# Altium integrated library CONN.IntLib: 87 symbols (part 1 of 2)
Pins are listed as number, name and electrical type; pins without a type are passive.

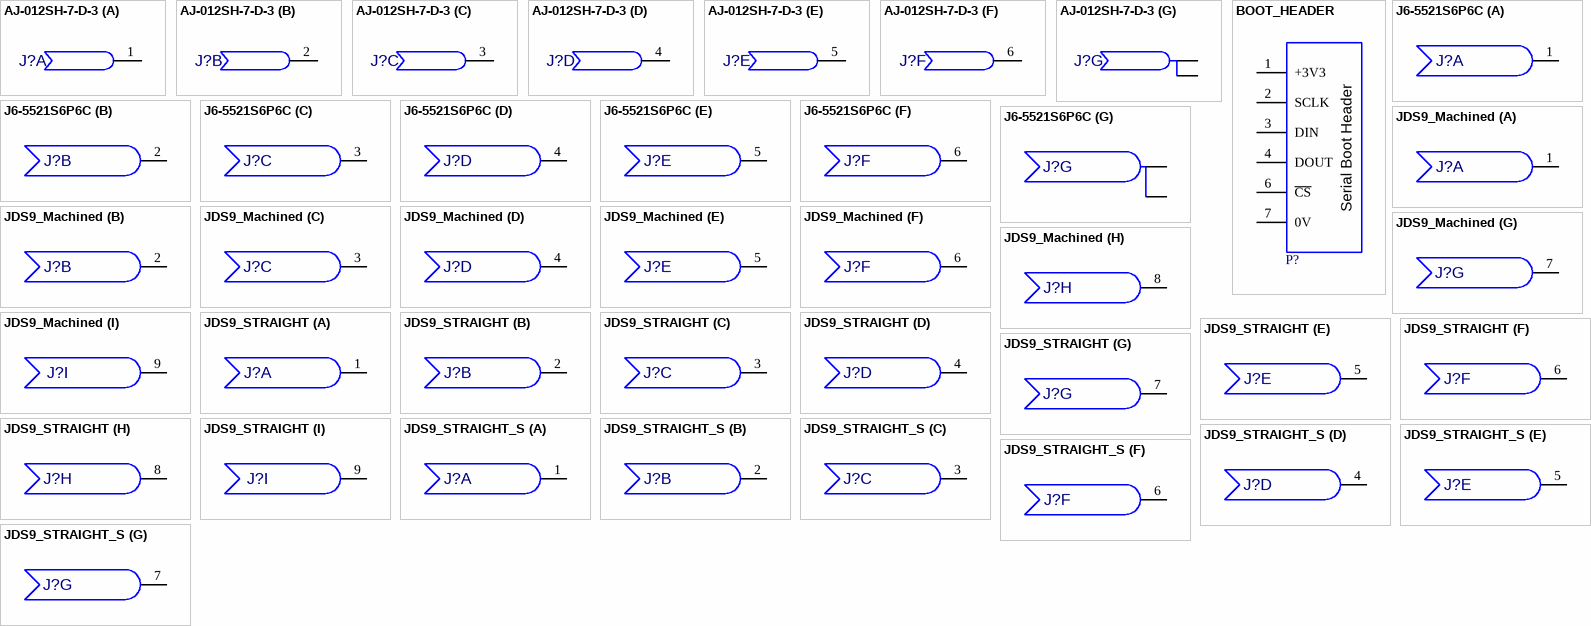
[diagram p0: symbols AJ-012SH-7-D-3 to JDS9_STRAIGHT_S]

## AJ-012SH-7-D-3
designator J?, comment 70615-291  (value not drawn)
CONNECTOR 6 WAY RJ12 VERTICAL; ECAD_Revision: 1; Librarian: UK; PartNumber: 70615-291; Item: *; HelpURL: *
footprint AJ-012SH-7-D-3 (Rev.1)
part A pins: 1 PIN
part B pins: 2 PIN
part C pins: 3 PIN
part D pins: 4 PIN
part E pins: 5 PIN
part F pins: 6 PIN
part G pins: 7 PIN, 8 PIN

## BOOT_HEADER
designator P?  (value not drawn)  (no BOM)
N9360 serial boot header - No BOM entry; ECAD_Revision: 1; Librarian: UK; Value: *; HelpURL: *; PartNumber: *; Item: *
footprint PH2M54-6S (Boot header, special 7 pos. 6 pins fitted. Rev. 1)
pins: 1 +3V3 "Positive Supply", 2 SCLK "Reset", 3 DIN "External Interupt", 4 DOUT "Transmit Data", 6 ~{CS} "Receive Data", 7 0V "Supply Ground"
text: Serial Boot Header

## J6-5521S6P6C
designator J?, comment AWT25-000165  (value not drawn)
CONNECTOR 6 WAY RJ12 RIGHT ANGLE; ECAD_Revision: 2; Librarian: UK; PartNumber: AWT25-000165; Item: *; HelpURL: *
footprint J6_5521S6P6C (CRS 5521S6P6C Rev.1)
part A pins: 1 PIN
part B pins: 2 PIN
part C pins: 3 PIN
part D pins: 4 PIN
part E pins: 5 PIN
part F pins: 6 PIN
part G pins: 9 PIN, 10 PIN

## JDS9_Machined
designator J?, comment AWT25-500102  (value not drawn)
Connector, D Series 9 Pin Female Machined; Value: {Value}; ECAD_Revision: 1; Librarian: US; PartNumber: AWT25-500102; Item: *; HelpURL: K:\ACCELEDA\PDF Spec Files\Connector\172-E09-213.pdf
footprint DJ9_STRAIGHT
part A pins: 1 PIN
part B pins: 2 PIN
part C pins: 3 PIN
part D pins: 4 PIN
part E pins: 5 PIN
part F pins: 6 PIN
part G pins: 7 PIN
part H pins: 8 PIN
part I pins: 9 PIN

## JDS9_STRAIGHT
designator J?, comment TMP_US_JDS9  (value not drawn)
Connector, D Series 9 Pin Female; Value: {Value}; ECAD_Revision: 1; Librarian: US; PartNumber: TMP_US_JDS9; Item: *; HelpURL: K:\ACCELEDA\PDF Spec Files\Connector\5747150.pdf
footprint DJ9_STRAIGHT
part A pins: 1 PIN
part B pins: 2 PIN
part C pins: 3 PIN
part D pins: 4 PIN
part E pins: 5 PIN
part F pins: 6 PIN
part G pins: 7 PIN
part H pins: 8 PIN
part I pins: 9 PIN

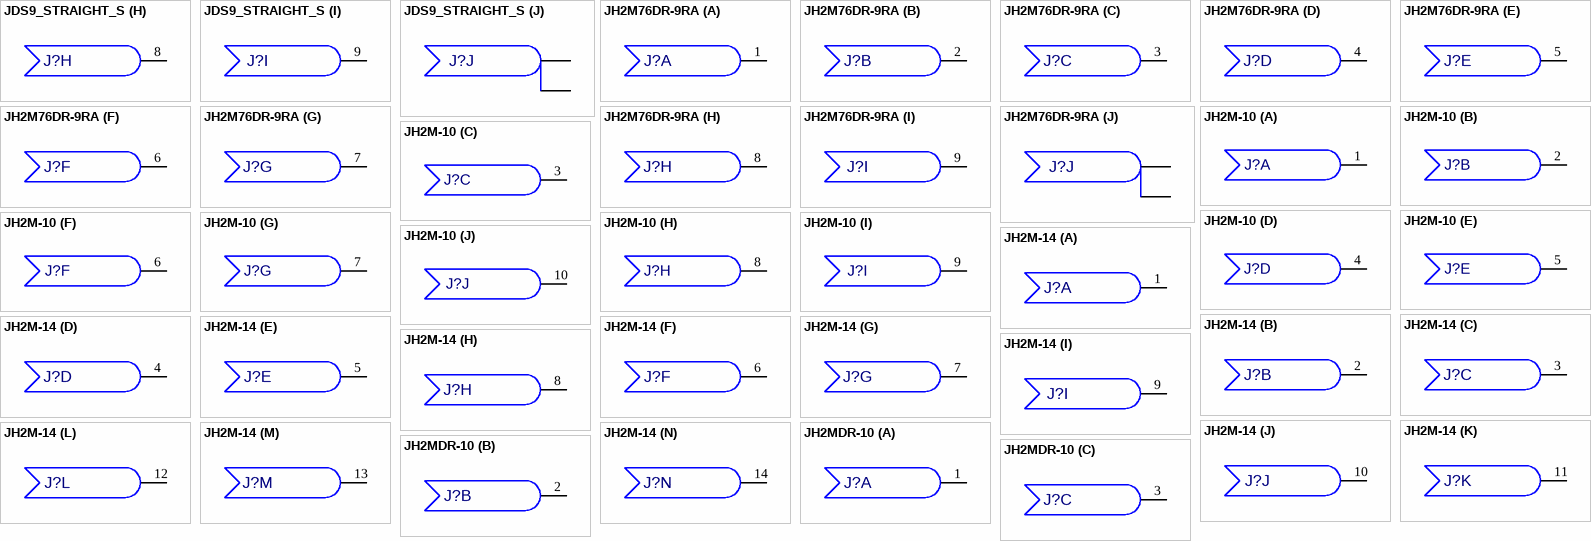
[diagram p1: symbols JDS9_STRAIGHT_S to JH2MDR-10]

## JDS9_STRAIGHT_S
designator J?, comment 70615-650  (value not drawn)
Connector, D Series 9 Pin Female; Value: {Value}; ECAD_Revision: 1; Librarian: UK; PartNumber: 70615-650; Item: *
footprint DP9_STRAIGHT_S_FXG_E (Ho Yang Stone equiv. 9 way D vertical with solder mnt.Rev.1)
part A pins: 1 PIN
part B pins: 2 PIN
part C pins: 3 PIN
part D pins: 4 PIN
part E pins: 5 PIN
part F pins: 6 PIN
part G pins: 7 PIN
part H pins: 8 PIN
part I pins: 9 PIN
part J pins: 10, 11

## JH2M76DR-9RA
designator J?, comment 18136-645  (value not drawn)
Connector, D Series 9 Pin Female Right Angles; Value: {Value}; ECAD_Revision: 1; Librarian: UK; PartNumber: 18136-645; Item: *
footprint JH2M76DR-9RA (SD, E SHELL, SCREWLOCKS, 9 WAY, JACK, RA, TINNED, Rev.1)
part A pins: 1 PIN
part B pins: 2 PIN
part C pins: 3 PIN
part D pins: 4 PIN
part E pins: 5 PIN
part F pins: 6 PIN
part G pins: 7 PIN
part H pins: 8 PIN
part I pins: 9 PIN
part J pins: 10, 11

## JH2M-10
designator J?, comment 52599-0107  (value not drawn)
Connector, 10 Pin Female; Value: {Value}; ECAD_Revision: 1; Librarian: US; PartNumber: 52599-0107; Item: *
footprint JH2M-10
part A pins: 1 PIN
part B pins: 2 PIN
part C pins: 3 PIN
part D pins: 4 PIN
part E pins: 5 PIN
part F pins: 6 PIN
part G pins: 7 PIN
part H pins: 8 PIN
part I pins: 9 PIN
part J pins: 10 PIN

## JH2M-14
designator J?, comment 52599-  (value not drawn)
Connector, 14 Pin Female; Value: {Value}; ECAD_Revision: 1; Librarian: US; PartNumber: 52599-; Item: *
footprint JH2M-14
part A pins: 1 PIN
part B pins: 2 PIN
part C pins: 3 PIN
part D pins: 4 PIN
part E pins: 5 PIN
part F pins: 6 PIN
part G pins: 7 PIN
part H pins: 8 PIN
part I pins: 9 PIN
part J pins: 10 PIN
part K pins: 11 PIN
part L pins: 12 PIN
part M pins: 13 PIN
part N pins: 14 PIN

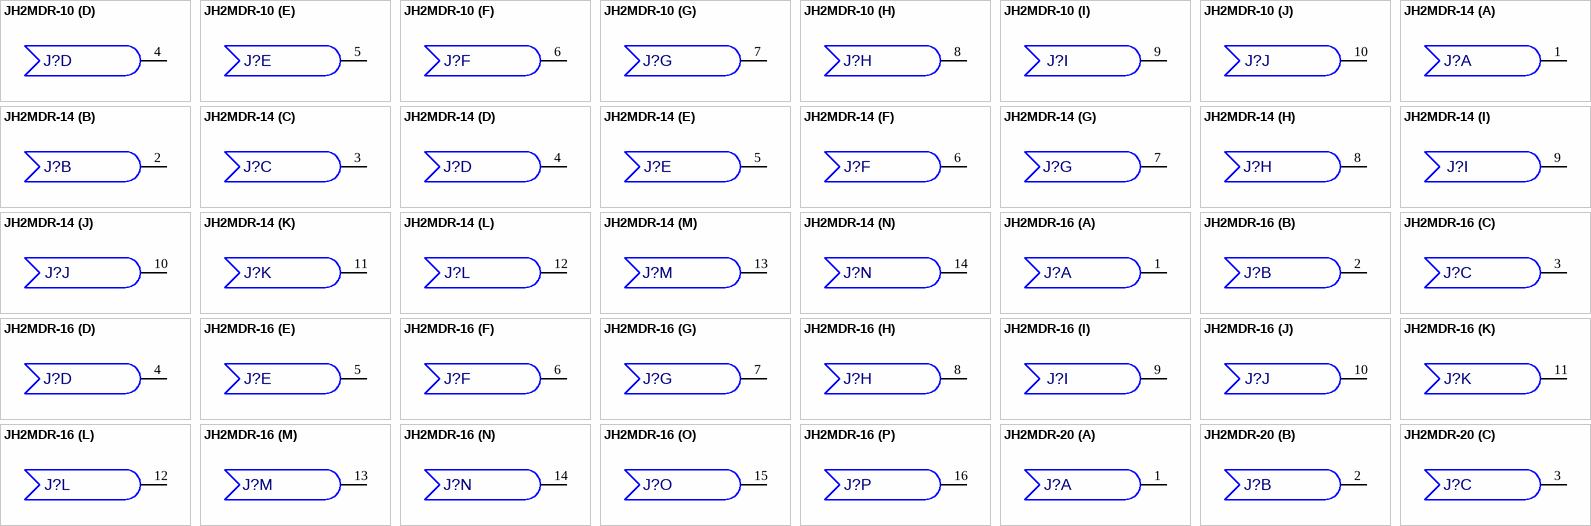
[diagram p2: symbols JH2MDR-10 to JH2MDR-20]

## JH2MDR-10
designator J?, comment 52599-5049  (value not drawn)
Connector, 10 Pin Female; Value: {Value}; ECAD_Revision: 1; Librarian: US; PartNumber: 52599-5049; Item: *
footprint JH2MDR-10
part A pins: 1 PIN
part B pins: 2 PIN
part C pins: 3 PIN
part D pins: 4 PIN
part E pins: 5 PIN
part F pins: 6 PIN
part G pins: 7 PIN
part H pins: 8 PIN
part I pins: 9 PIN
part J pins: 10 PIN

## JH2MDR-14
designator J?, comment 52599-  (value not drawn)
Connector, 10 Pin Female; Value: {Value}; ECAD_Revision: 1; Librarian: US; PartNumber: 52599-; Item: *
footprint JH2MDR-14
part A pins: 1 PIN
part B pins: 2 PIN
part C pins: 3 PIN
part D pins: 4 PIN
part E pins: 5 PIN
part F pins: 6 PIN
part G pins: 7 PIN
part H pins: 8 PIN
part I pins: 9 PIN
part J pins: 10 PIN
part K pins: 11 PIN
part L pins: 12 PIN
part M pins: 13 PIN
part N pins: 14 PIN

## JH2MDR-16
designator J?, comment 52599-  (value not drawn)
Connector, 16 Pin Female; Value: {Value}; ECAD_Revision: 1; Librarian: US; PartNumber: 52599-; Item: *
footprint JH2MDR-16
part A pins: 1 PIN
part B pins: 2 PIN
part C pins: 3 PIN
part D pins: 4 PIN
part E pins: 5 PIN
part F pins: 6 PIN
part G pins: 7 PIN
part H pins: 8 PIN
part I pins: 9 PIN
part J pins: 10 PIN
part K pins: 11 PIN
part L pins: 12 PIN
part M pins: 13 PIN
part N pins: 14 PIN
part O pins: 15 PIN
part P pins: 16 PIN

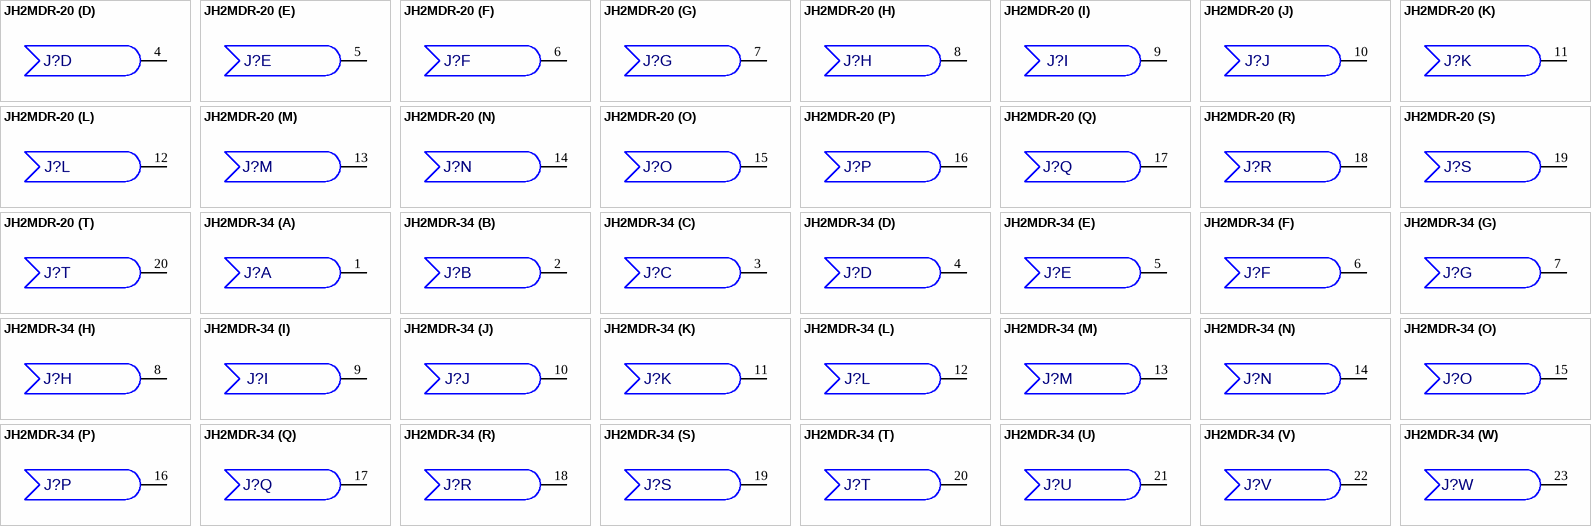
[diagram p3: symbols JH2MDR-20 to JH2MDR-34]

## JH2MDR-20
designator J?, comment 52599-  (value not drawn)
Connector, 20 Pin Female; Value: {Value}; ECAD_Revision: 1; Librarian: US; PartNumber: 52599-; Item: *
footprint JH2MDR-20
part A pins: 1 PIN
part B pins: 2 PIN
part C pins: 3 PIN
part D pins: 4 PIN
part E pins: 5 PIN
part F pins: 6 PIN
part G pins: 7 PIN
part H pins: 8 PIN
part I pins: 9 PIN
part J pins: 10 PIN
part K pins: 11 PIN
part L pins: 12 PIN
part M pins: 13 PIN
part N pins: 14 PIN
part O pins: 15 PIN
part P pins: 16 PIN
part Q pins: 17 PIN
part R pins: 18 PIN
part S pins: 19 PIN
part T pins: 20 PIN

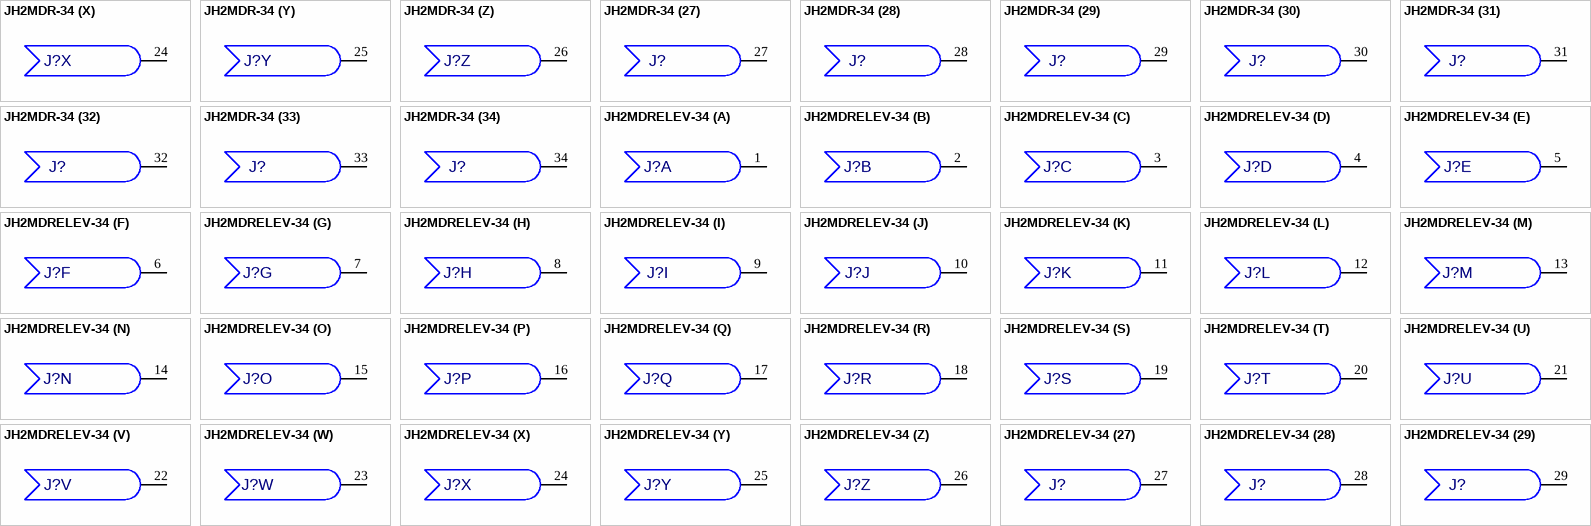
[diagram p4: symbols JH2MDR-34 to JH2MDRELEV-34]

## JH2MDR-34
designator J?, comment 52599-5163  (value not drawn)
Connector, 34 Pin Female; Value: {Value}; ECAD_Revision: 1; Librarian: US; PartNumber: 52599-5163; Item: *
footprint JH2MDR-34
part A pins: 1 PIN
part B pins: 2 PIN
part C pins: 3 PIN
part D pins: 4 PIN
part E pins: 5 PIN
part F pins: 6 PIN
part G pins: 7 PIN
part H pins: 8 PIN
part I pins: 9 PIN
part J pins: 10 PIN
part K pins: 11 PIN
part L pins: 12 PIN
part M pins: 13 PIN
part N pins: 14 PIN
part O pins: 15 PIN
part P pins: 16 PIN
part Q pins: 17 PIN
part R pins: 18 PIN
part S pins: 19 PIN
part T pins: 20 PIN
part U pins: 21 PIN
part V pins: 22 PIN
part W pins: 23 PIN
part X pins: 24 PIN
part Y pins: 25 PIN
part Z pins: 26 PIN
part 27 pins: 27 PIN
part 28 pins: 28 PIN
part 29 pins: 29 PIN
part 30 pins: 30 PIN
part 31 pins: 31 PIN
part 32 pins: 32 PIN
part 33 pins: 33 PIN
part 34 pins: 34 PIN

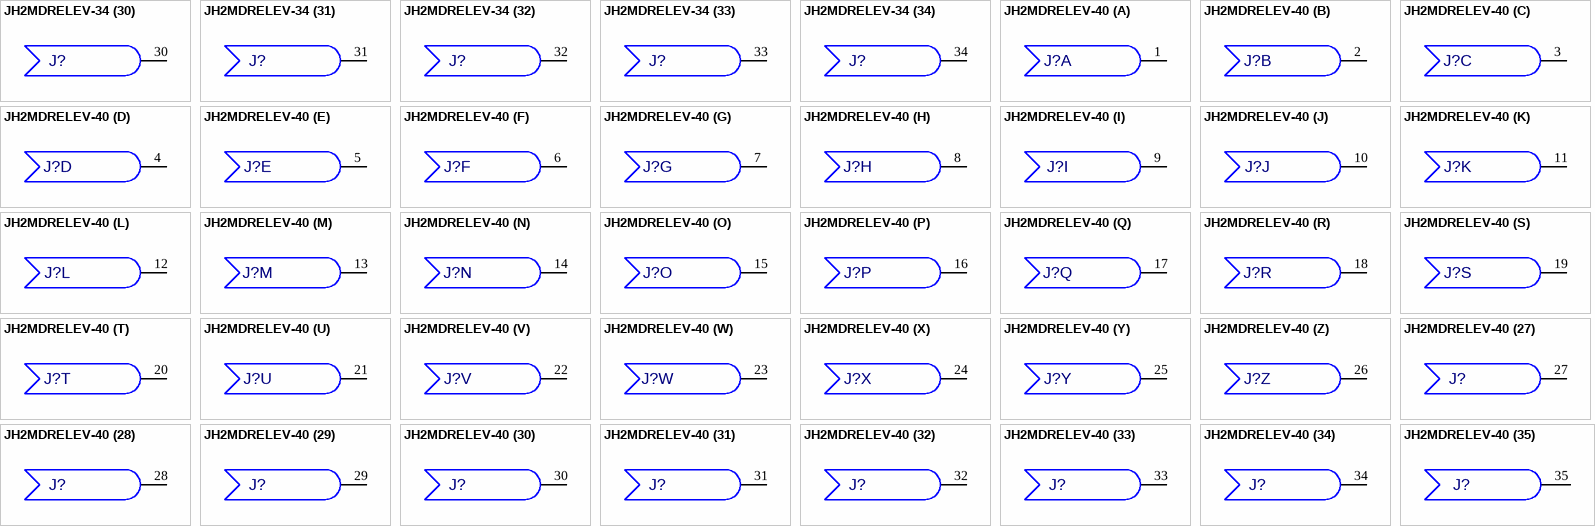
[diagram p5: symbols JH2MDRELEV-34 to JH2MDRELEV-40]

## JH2MDRELEV-34
designator J?, comment AWT25-500056  (value not drawn)
Connector, 34 Pin Female; Value: {Value}; ECAD_Revision: 1; Librarian: US; PartNumber: AWT25-500056; Item: *; HelpURL: K:\ACCELEDA\PDF Spec Files\Connector\ESQT_TH.PDF
footprint JH2MDRELEV-34 (ESQT SERIES SAMTEC)
part A pins: 1 PIN
part B pins: 2 PIN
part C pins: 3 PIN
part D pins: 4 PIN
part E pins: 5 PIN
part F pins: 6 PIN
part G pins: 7 PIN
part H pins: 8 PIN
part I pins: 9 PIN
part J pins: 10 PIN
part K pins: 11 PIN
part L pins: 12 PIN
part M pins: 13 PIN
part N pins: 14 PIN
part O pins: 15 PIN
part P pins: 16 PIN
part Q pins: 17 PIN
part R pins: 18 PIN
part S pins: 19 PIN
part T pins: 20 PIN
part U pins: 21 PIN
part V pins: 22 PIN
part W pins: 23 PIN
part X pins: 24 PIN
part Y pins: 25 PIN
part Z pins: 26 PIN
part 27 pins: 27 PIN
part 28 pins: 28 PIN
part 29 pins: 29 PIN
part 30 pins: 30 PIN
part 31 pins: 31 PIN
part 32 pins: 32 PIN
part 33 pins: 33 PIN
part 34 pins: 34 PIN

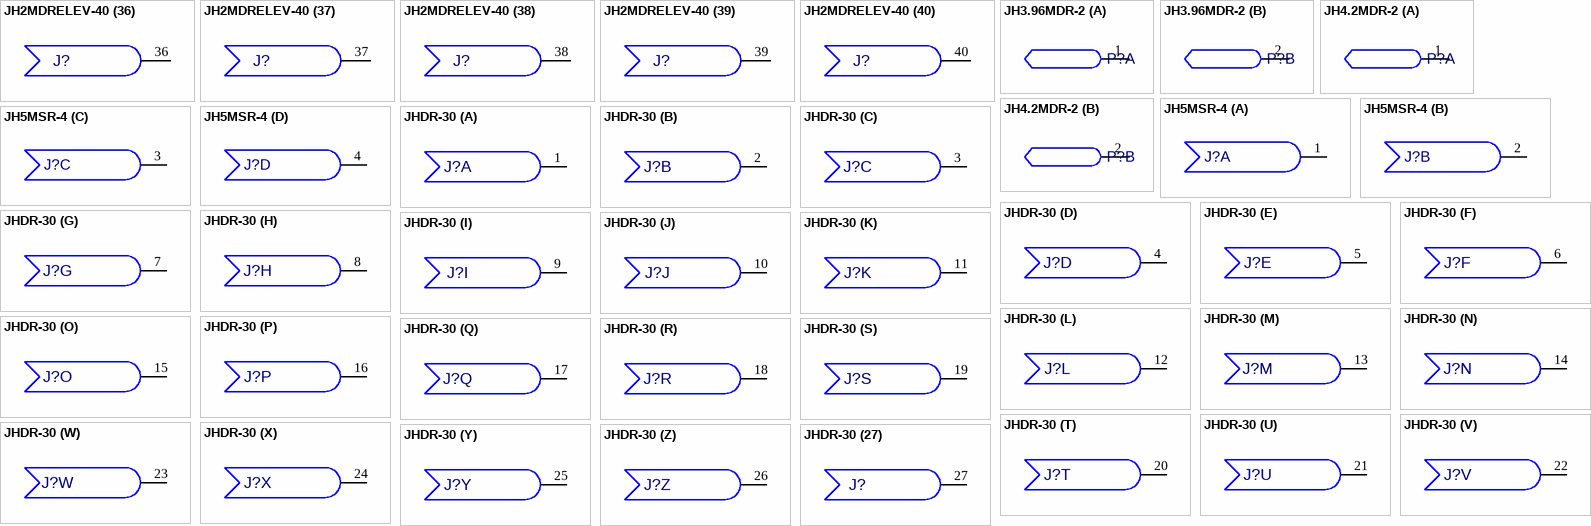
[diagram p6: symbols JH2MDRELEV-40 to JHDR-30]

## JH2MDRELEV-40
designator J?, comment TMP_US_JH2MDRELEV-40  (value not drawn)
Connector, 40 Pin Female; Value: {Value}; ECAD_Revision: 1; Librarian: US; PartNumber: TMP_US_JH2MDRELEV-40; Item: *; HelpURL: K:\ACCELEDA\PDF Spec Files\Connector\ESQT_TH.PDF
footprint JH2MDRELEV-40 (ESQT SERIES SAMTEC)
part A pins: 1 PIN
part B pins: 2 PIN
part C pins: 3 PIN
part D pins: 4 PIN
part E pins: 5 PIN
part F pins: 6 PIN
part G pins: 7 PIN
part H pins: 8 PIN
part I pins: 9 PIN
part J pins: 10 PIN
part K pins: 11 PIN
part L pins: 12 PIN
part M pins: 13 PIN
part N pins: 14 PIN
part O pins: 15 PIN
part P pins: 16 PIN
part Q pins: 17 PIN
part R pins: 18 PIN
part S pins: 19 PIN
part T pins: 20 PIN
part U pins: 21 PIN
part V pins: 22 PIN
part W pins: 23 PIN
part X pins: 24 PIN
part Y pins: 25 PIN
part Z pins: 26 PIN
part 27 pins: 27 PIN
part 28 pins: 28 PIN
part 29 pins: 29 PIN
part 30 pins: 30 PIN
part 31 pins: 31 PIN
part 32 pins: 32 PIN
part 33 pins: 33 PIN
part 34 pins: 34 PIN
part 35 pins: 35 PIN (power)
part 36 pins: 36 PIN (power)
part 37 pins: 37 PIN (power)
part 38 pins: 38 PIN (power)
part 39 pins: 39 PIN (power)
part 40 pins: 40 PIN (power)

## JH3.96MDR-2
designator P?, comment AWT25-000196  (value not drawn)
CONNECTOR 2 PIN HEADER 3.96mm PITCH; ECAD_Revision: 1; Librarian: UK; HelpURL: *; PartNumber: AWT25-000196
footprint PH3.96MDR-2 (Body 7.86x14.9mm, Pitch 3.96mm, Rev. 1)
part A pins: 1 PIN
part B pins: 2 PIN

## JH4.2MDR-2
designator P?, comment AWT25-000195  (value not drawn)
CONNECTOR 2 PIN HEADER 4.2mm PITCH; ECAD_Revision: 1; Librarian: UK; HelpURL: *; PartNumber: AWT25-000195
footprint PH4.2M-2 (Body 5.4x9.6mm, Pitch 4.2mm, Rev. 1)
part A pins: 1 PIN
part B pins: 2 PIN

## JH5MSR-4
designator J?, comment 70614-362  (value not drawn)
Connector, 4 Pin Female; Value: 15A; ECAD_Revision: 1; Librarian: UK; PartNumber: 70614-362; Item: *
footprint JH5MSR-4 (IMO Angled 590 Series terminal block)
part A pins: 1 PIN
part B pins: 2 PIN
part C pins: 3 PIN
part D pins: 4 PIN

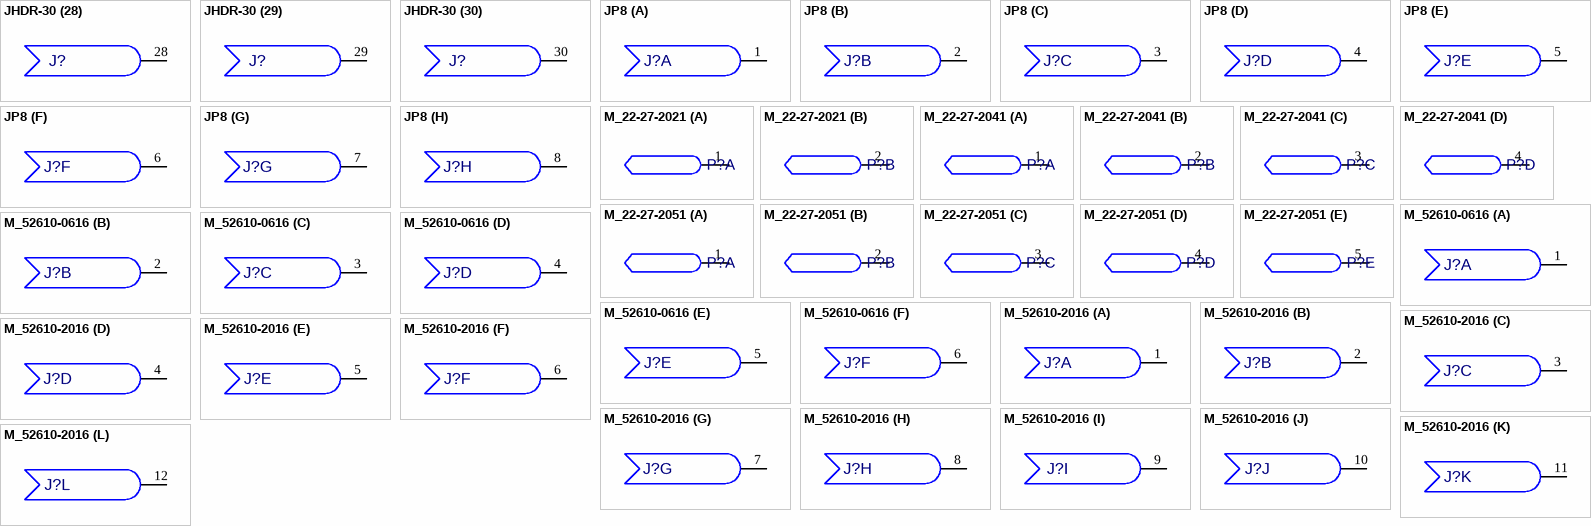
[diagram p7: symbols JHDR-30 to M_52610-2016]

## JHDR-30
designator J?, comment 48631-0147  (value not drawn)
Connector, 30 Pin Female; Value: {Value}; ECAD_Revision: 1; Librarian: US; PartNumber: 48631-0147; Item: *; HelpURL: K:\ACCELEDA\PDF Spec Files\Connector\SSW_TH.pdf
footprint JHDR_30 (SSW  SERIES SAMTEC)
part A pins: 1 PIN
part B pins: 2 PIN
part C pins: 3 PIN
part D pins: 4 PIN
part E pins: 5 PIN
part F pins: 6 PIN
part G pins: 7 PIN
part H pins: 8 PIN
part I pins: 9 PIN
part J pins: 10 PIN
part K pins: 11 PIN
part L pins: 12 PIN
part M pins: 13 PIN
part N pins: 14 PIN
part O pins: 15 PIN
part P pins: 16 PIN
part Q pins: 17 PIN
part R pins: 18 PIN
part S pins: 19 PIN
part T pins: 20 PIN
part U pins: 21 PIN
part V pins: 22 PIN
part W pins: 23 PIN
part X pins: 24 PIN
part Y pins: 25 PIN
part Z pins: 26 PIN
part 27 pins: 27 PIN
part 28 pins: 28 PIN
part 29 pins: 29 PIN
part 30 pins: 30 PIN

## JP8
designator J?, comment 60203-1031  (value not drawn)
Connector, Phone Side; Value: {Value}; ECAD_Revision: 1; Librarian: US; PartNumber: 60203-1031; Item: *
footprint JP8 (Phone Side Entry 8 Pin)
pins on every part: 9 hidden, 10 hidden
part A pins: 1 PIN
part B pins: 2 PIN
part C pins: 3 PIN
part D pins: 4 PIN
part E pins: 5 PIN
part F pins: 6 PIN
part G pins: 7 PIN
part H pins: 8 PIN

## M_22-27-2021
designator P?, comment 70612-142  (value not drawn)
Connector, Molex 22-27-2021 2 WAY LOCKING WAFER (2.54); ECAD_Revision: 1; Librarian: UK; HelpURL: *; PartNumber: 70612-142
footprint 22-27-2021 (Molex Rev. 1)
part A pins: 1 PIN
part B pins: 2 PIN

## M_22-27-2041
designator P?, comment 70612-144  (value not drawn)
Connector, 4 WAY LOCKING WAFER (2.54), MOLEX 2-27-2041; ECAD_Revision: 1; Librarian: UK; HelpURL: *; PartNumber: 70612-144; Value: 22-27-2041
footprint M_22-27-2041 (Molex 6410 type header, 4 way, 2.54mm pitch, Rev. 1)
part A pins: 1 PIN
part B pins: 2 PIN
part C pins: 3 PIN
part D pins: 4 PIN

## M_22-27-2051
designator P?, comment 70612-707  (value not drawn)
Connector, 5 WAY LOCKING WAFER (2.54), Molex 22-27-2051; ECAD_Revision: 1; Librarian: UK; HelpURL: *; PartNumber: 70612-707; Value: 22-27-2051
footprint M_22-27-2051 (Molex 6410 type header, 5 way, 2.54mm pitch, Rev. 1)
part A pins: 1 PIN
part B pins: 2 PIN
part C pins: 3 PIN
part D pins: 4 PIN
part E pins: 5 PIN

## M_52610-0616
designator J?, comment AWT25-000171  (value not drawn)
Connector, 6 way, Receptacle; Value: {Value}; ECAD_Revision: 2; Librarian: UK; PartNumber: AWT25-000171; Item: *
footprint M_52610-0616 (Molex 52610 series 1 mm pitch, 6 way, receptacle. Rev. 1)
part A pins: 1 PIN
part B pins: 2 PIN
part C pins: 3 PIN
part D pins: 4 PIN
part E pins: 5 PIN
part F pins: 6 PIN

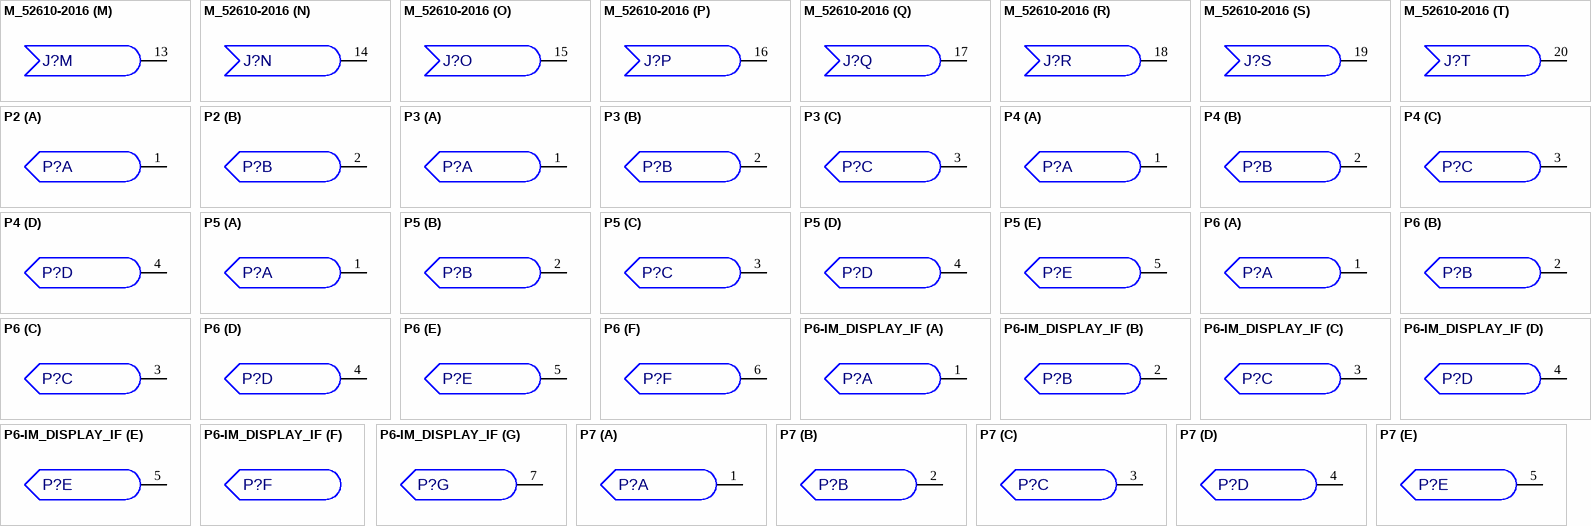
[diagram p8: symbols M_52610-2016 to P7]

## M_52610-2016
designator J?, comment AWT25-000172  (value not drawn)
Connector, 20 way, Receptacle; Value: {Value}; ECAD_Revision: 2; Librarian: UK; PartNumber: AWT25-000172; Item: *
footprint M_52610-2016 (Molex 52610 series 1 mm pitch, 20 way, receptacle. Rev. 1)
part A pins: 1 PIN
part B pins: 2 PIN
part C pins: 3 PIN
part D pins: 4 PIN
part E pins: 5 PIN
part F pins: 6 PIN
part G pins: 7 PIN
part H pins: 8 PIN
part I pins: 9 PIN
part J pins: 10 PIN
part K pins: 11 PIN
part L pins: 12 PIN
part M pins: 13 PIN
part N pins: 14 PIN
part O pins: 15 PIN
part P pins: 16 PIN
part Q pins: 17 PIN
part R pins: 18 PIN
part S pins: 19 PIN
part T pins: 20 PIN

## P2
designator P?, comment 17734-0015  (value not drawn)
Connector, 2 Pin Male; Value: {Value}; ECAD_Revision: 1; Librarian: US; PartNumber: 17734-0015; Item: *
footprint P2
part A pins: 1 PIN
part B pins: 2 PIN

## P3
designator P?, comment 17734-0023  (value not drawn)
Connector, 3 Pin Male; Value: {Value}; ECAD_Revision: 1; Librarian: US; PartNumber: 17734-0023; Item: *
footprint P3
part A pins: 1 PIN
part B pins: 2 PIN
part C pins: 3 PIN

## P4
designator P?, comment 17734-0031  (value not drawn)
Connector, 4 Pin Male; Value: {Value}; ECAD_Revision: 1; Librarian: US; PartNumber: 17734-0031; Item: *
footprint P4
part A pins: 1 PIN
part B pins: 2 PIN
part C pins: 3 PIN
part D pins: 4 PIN

## P5
designator P?, comment 17734-0049  (value not drawn)
Connector, 5 Pin Male; Value: {Value}; ECAD_Revision: 1; Librarian: US; PartNumber: 17734-0049; Item: *
footprint P5
part A pins: 1 PIN
part B pins: 2 PIN
part C pins: 3 PIN
part D pins: 4 PIN
part E pins: 5 PIN

## P6
designator P?, comment 17734-0056  (value not drawn)
Connector, 6 Pin Male; Value: {Value}; ECAD_Revision: 1; Librarian: US; PartNumber: 17734-0056; Item: *
footprint P6
part A pins: 1 PIN
part B pins: 2 PIN
part C pins: 3 PIN
part D pins: 4 PIN
part E pins: 5 PIN
part F pins: 6 PIN

## P6-IM_DISPLAY_IF
designator P?, comment -  (value not drawn)  (no BOM)
Connector, 7 pos. 6 holes for test header (2.54mm pitch); ECAD_Revision: 1; Librarian: UK; Value: -; PartNumber: -; Item: *
footprint P6-IM_DISPLAY_IF (Rev. 1)
part A pins: 1 PIN
part B pins: 2 PIN
part C pins: 3 PIN
part D pins: 4 PIN
part E pins: 5 PIN
part G pins: 7 PIN

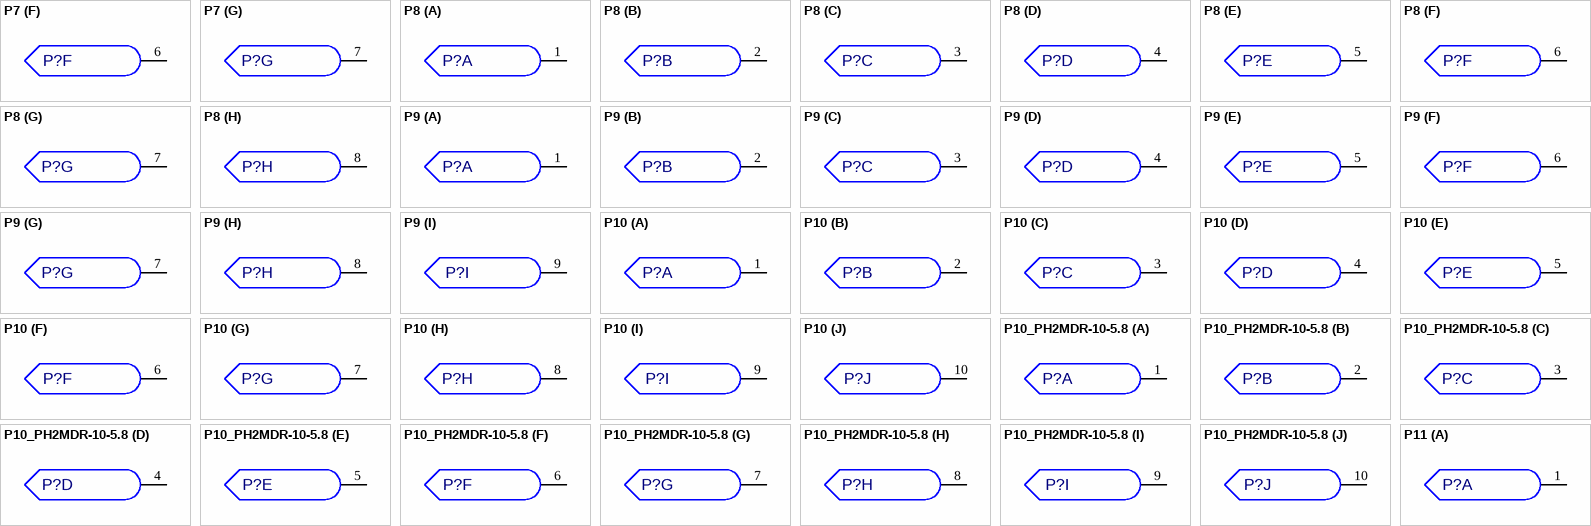
[diagram p9: symbols P7 to P11]

## P7
designator P?, comment 17734-0064  (value not drawn)
Connector, 7 Pin Male; Value: {Value}; ECAD_Revision: 1; Librarian: US; PartNumber: 17734-0064; Item: *
footprint P7
part A pins: 1 PIN
part B pins: 2 PIN
part C pins: 3 PIN
part D pins: 4 PIN
part E pins: 5 PIN
part F pins: 6 PIN
part G pins: 7 PIN

## P8
designator P?, comment 17734-0072  (value not drawn)
Connector, 8 Pin Male; Value: {Value}; ECAD_Revision: 1; Librarian: US; PartNumber: 17734-0072; Item: *
footprint P8
part A pins: 1 PIN
part B pins: 2 PIN
part C pins: 3 PIN
part D pins: 4 PIN
part E pins: 5 PIN
part F pins: 6 PIN
part G pins: 7 PIN
part H pins: 8 PIN

## P9
designator P?, comment 17734-0080  (value not drawn)
Connector, 9 Pin Male; Value: {Value}; ECAD_Revision: 1; Librarian: US; PartNumber: 17734-0080; Item: *
footprint P9
part A pins: 1 PIN
part B pins: 2 PIN
part C pins: 3 PIN
part D pins: 4 PIN
part E pins: 5 PIN
part F pins: 6 PIN
part G pins: 7 PIN
part H pins: 8 PIN
part I pins: 9 PIN

## P10
designator P?, comment 17734-0098  (value not drawn)
Connector, 10 Pin Male; Value: {Value}; ECAD_Revision: 1; Librarian: US; PartNumber: 17734-0098; Item: *
footprint P10
part A pins: 1 PIN
part B pins: 2 PIN
part C pins: 3 PIN
part D pins: 4 PIN
part E pins: 5 PIN
part F pins: 6 PIN
part G pins: 7 PIN
part H pins: 8 PIN
part I pins: 9 PIN
part J pins: 10 PIN

## P10_PH2MDR-10-5.8
designator P?, comment AWT25-000162  (value not drawn)
Connector, 10 Pin Male; Value: {Value}; ECAD_Revision: 1; Librarian: UK; PartNumber: AWT25-000162; Item: *
footprint PH2MDR-10-5.8 (Auk MDV10, Rev. 1)
part A pins: 1 PIN
part B pins: 2 PIN
part C pins: 3 PIN
part D pins: 4 PIN
part E pins: 5 PIN
part F pins: 6 PIN
part G pins: 7 PIN
part H pins: 8 PIN
part I pins: 9 PIN
part J pins: 10 PIN

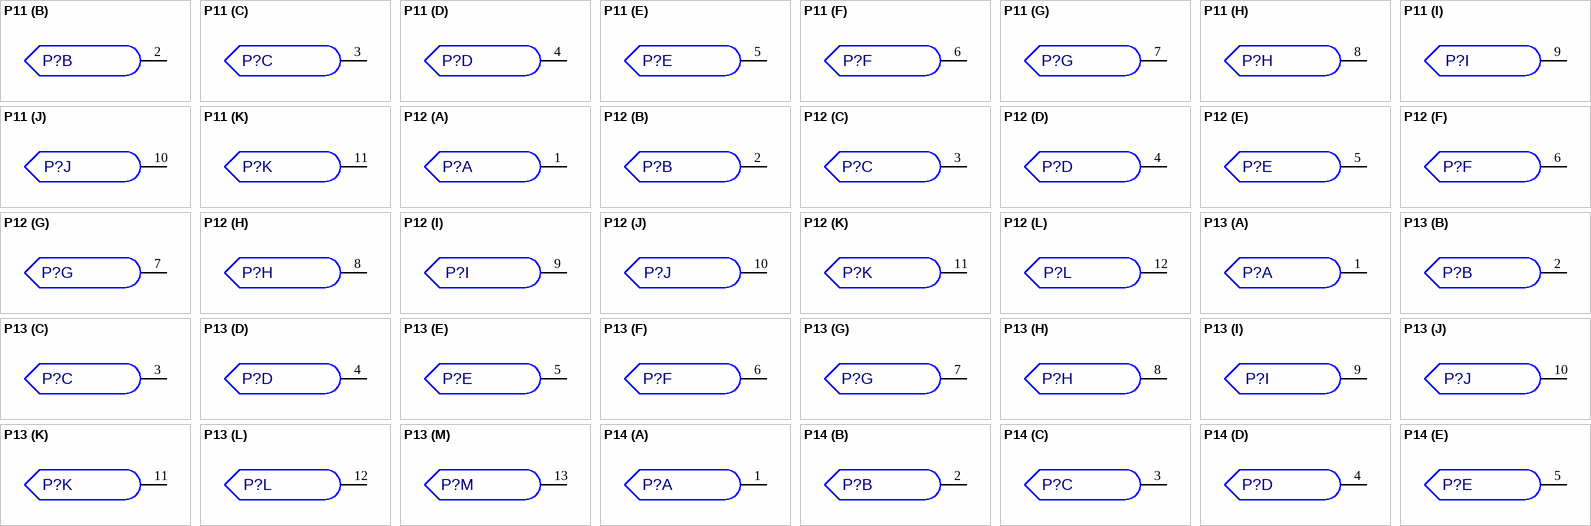
[diagram p10: symbols P11 to P14]

## P11
designator P?, comment 17734-0106  (value not drawn)
Connector, 11 Pin Male; Value: {Value}; ECAD_Revision: 1; Librarian: US; PartNumber: 17734-0106; Item: *
footprint P11
part A pins: 1 PIN
part B pins: 2 PIN
part C pins: 3 PIN
part D pins: 4 PIN
part E pins: 5 PIN
part F pins: 6 PIN
part G pins: 7 PIN
part H pins: 8 PIN
part I pins: 9 PIN
part J pins: 10 PIN
part K pins: 11 PIN

## P12
designator P?, comment 17734-0114  (value not drawn)
Connector, 12 Pin Male; Value: {Value}; ECAD_Revision: 1; Librarian: US; PartNumber: 17734-0114; Item: *
footprint P12
part A pins: 1 PIN
part B pins: 2 PIN
part C pins: 3 PIN
part D pins: 4 PIN
part E pins: 5 PIN
part F pins: 6 PIN
part G pins: 7 PIN
part H pins: 8 PIN
part I pins: 9 PIN
part J pins: 10 PIN
part K pins: 11 PIN
part L pins: 12 PIN

## P13
designator P?, comment 17734-0122  (value not drawn)
Connector, 13 Pin Male; Value: {Value}; ECAD_Revision: 1; Librarian: US; PartNumber: 17734-0122; Item: *
footprint P13
part A pins: 1 PIN
part B pins: 2 PIN
part C pins: 3 PIN
part D pins: 4 PIN
part E pins: 5 PIN
part F pins: 6 PIN
part G pins: 7 PIN
part H pins: 8 PIN
part I pins: 9 PIN
part J pins: 10 PIN
part K pins: 11 PIN
part L pins: 12 PIN
part M pins: 13 PIN

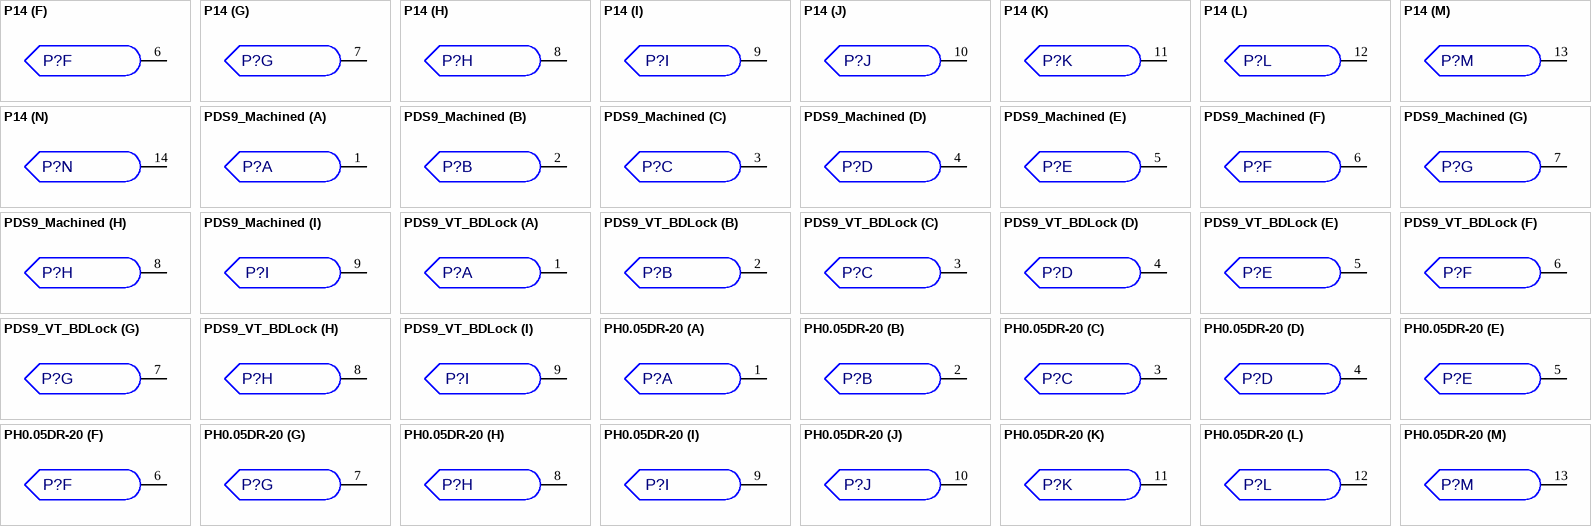
[diagram p11: symbols P14 to PH0.05DR-20]

## P14
designator P?, comment 17734-0130  (value not drawn)
Connector, 14 Pin Male; Value: {Value}; ECAD_Revision: 1; Librarian: US; PartNumber: 17734-0130; Item: *
footprint P14
part A pins: 1 PIN
part B pins: 2 PIN
part C pins: 3 PIN
part D pins: 4 PIN
part E pins: 5 PIN
part F pins: 6 PIN
part G pins: 7 PIN
part H pins: 8 PIN
part I pins: 9 PIN
part J pins: 10 PIN
part K pins: 11 PIN
part L pins: 12 PIN
part M pins: 13 PIN
part N pins: 14 PIN

## PDS9_Machined
designator P?, comment AWT25-500103  (value not drawn)
Connector, D Series 9 Pin Male Machined; Value: {Value}; ECAD_Revision: 1; Librarian: US; PartNumber: AWT25-500103; Item: *; HelpURL: K:\ACCELEDA\PDF Spec Files\Connector\172-E09-113.pdf
footprint DP9_STRAIGHT
part A pins: 1 PIN
part B pins: 2 PIN
part C pins: 3 PIN
part D pins: 4 PIN
part E pins: 5 PIN
part F pins: 6 PIN
part G pins: 7 PIN
part H pins: 8 PIN
part I pins: 9 PIN

## PDS9_VT_BDLock
designator P?, comment AWT25-500057  (value not drawn)
Connector, D Series 9 Pin Male; Value: {Value}; ECAD_Revision: 1; Librarian: US; PartNumber: AWT25-500057; Item: *; HelpURL: K:\ACCELEDA\PDF Spec Files\Connector\DE09-PT.pdf
footprint DP9_VT_BDLock (Plug Vetrical with Board Locks Rev. 1)
part A pins: 1 PIN
part B pins: 2 PIN
part C pins: 3 PIN
part D pins: 4 PIN
part E pins: 5 PIN
part F pins: 6 PIN
part G pins: 7 PIN
part H pins: 8 PIN
part I pins: 9 PIN

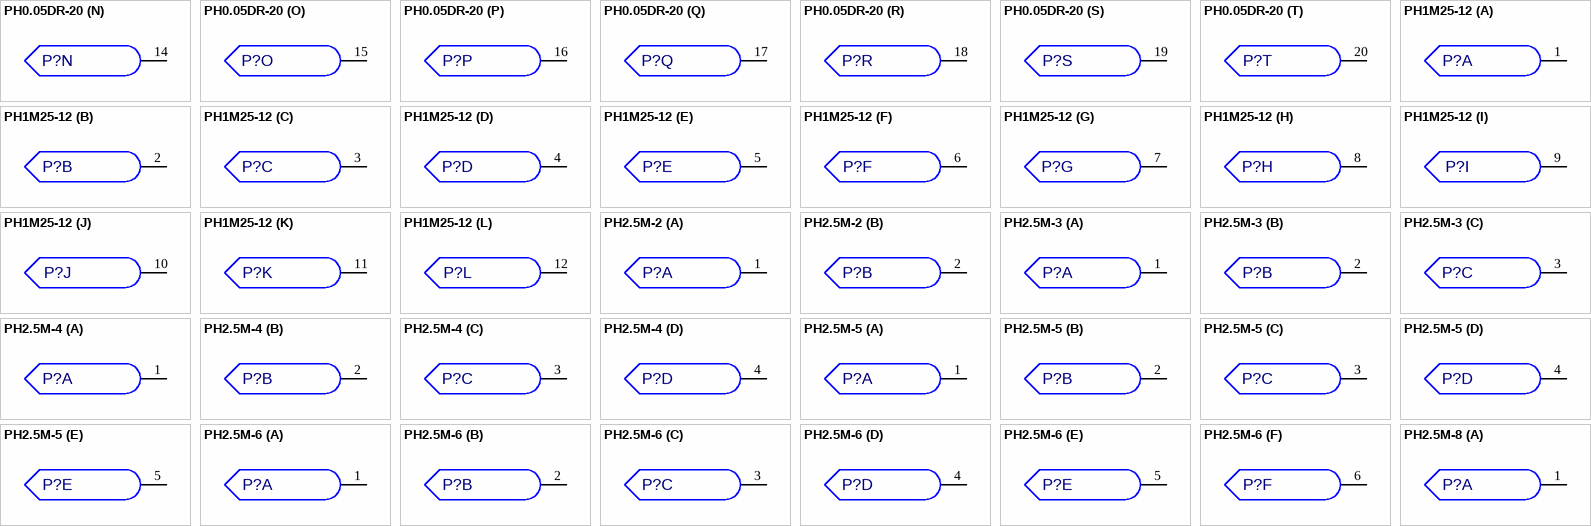
[diagram p12: symbols PH0.05DR-20 to PH2.5M-8]

## PH0.05DR-20
designator P?, comment TMP_US_PH0.05DR-20  (value not drawn)
Connector, 20 Pin Male; Value: {Value}; ECAD_Revision: 1; Librarian: US; PartNumber: TMP_US_PH0.05DR-20; Item: *
footprint PH0.05DR-20 (AMP  5-104068-1)
part A pins: 1 PIN
part B pins: 2 PIN
part C pins: 3 PIN
part D pins: 4 PIN
part E pins: 5 PIN
part F pins: 6 PIN
part G pins: 7 PIN
part H pins: 8 PIN
part I pins: 9 PIN
part J pins: 10 PIN
part K pins: 11 PIN
part L pins: 12 PIN
part M pins: 13 PIN
part N pins: 14 PIN
part O pins: 15 PIN
part P pins: 16 PIN
part Q pins: 17 PIN
part R pins: 18 PIN
part S pins: 19 PIN
part T pins: 20 PIN

## PH1M25-12
designator P?, comment AWT25-000239  (value not drawn)
Connector, 12 Pin Male, 1.25mm Pitch; Value: {Value}; ECAD_Revision: 1; Librarian: UK; PartNumber: AWT25-000239; Item: *
footprint PH1M25-12 (MOLEX SD-53047-1210 Rev.1)
part A pins: 1 PIN
part B pins: 2 PIN
part C pins: 3 PIN
part D pins: 4 PIN
part E pins: 5 PIN
part F pins: 6 PIN
part G pins: 7 PIN
part H pins: 8 PIN
part I pins: 9 PIN
part J pins: 10 PIN
part K pins: 11 PIN
part L pins: 12 PIN

## PH2.5M-2
designator P?, comment 60212-0024  (value not drawn)
Connector, 2 Pin Male; Value: {Value}; ECAD_Revision: 1; Librarian: US; PartNumber: 60212-0024; HelpURL: K:\ACCELEDA\PDF Spec Files\Connector\2521p.pdf; Item: *
footprint PH2.5M-2
part A pins: 1 PIN
part B pins: 2 PIN

## PH2.5M-3
designator P?, comment AWT25-500166  (value not drawn)
Connector, 3 Pin Male; Value: {Value}; ECAD_Revision: 2; Librarian: US; PartNumber: AWT25-500166; Item: *; HelpURL: K:\ACCELEDA\PDF Spec Files\Connector\2512P.PDF
footprint PH2.5M-3 (Header 2.5mm pitch)
part A pins: 1 PIN
part B pins: 2 PIN
part C pins: 3 PIN

## PH2.5M-4
designator P?, comment 60212-0040  (value not drawn)
Connector, 4 Pin Male; Value: {Value}; ECAD_Revision: 1; Librarian: US; PartNumber: 60212-0040; Item: *; HelpURL: K:\ACCELEDA\PDF Spec Files\Connector\2512P.PDF
footprint PH2.5M-4 (Header 2.5mm pitch)
part A pins: 1 PIN
part B pins: 2 PIN
part C pins: 3 PIN
part D pins: 4 PIN

## PH2.5M-5
designator P?, comment 60212-0057  (value not drawn)
Connector, 5 Pin Male; Value: {Value}; ECAD_Revision: 1; Librarian: US; PartNumber: 60212-0057; HelpURL: K:\ACCELEDA\PDF Spec Files\Connector\2521p.pdf; Item: *
footprint PH2.5M-5
part A pins: 1 PIN
part B pins: 2 PIN
part C pins: 3 PIN
part D pins: 4 PIN
part E pins: 5 PIN

## PH2.5M-6
designator P?, comment 60212-0065  (value not drawn)
Connector, 6 Pin Male; Value: {Value}; ECAD_Revision: 1; Librarian: US; PartNumber: 60212-0065; HelpURL: K:\ACCELEDA\PDF Spec Files\Connector\2521p.pdf; Item: *
footprint PH2.5M-6 (Header 2.5mm pitch)
part A pins: 1 PIN
part B pins: 2 PIN
part C pins: 3 PIN
part D pins: 4 PIN
part E pins: 5 PIN
part F pins: 6 PIN

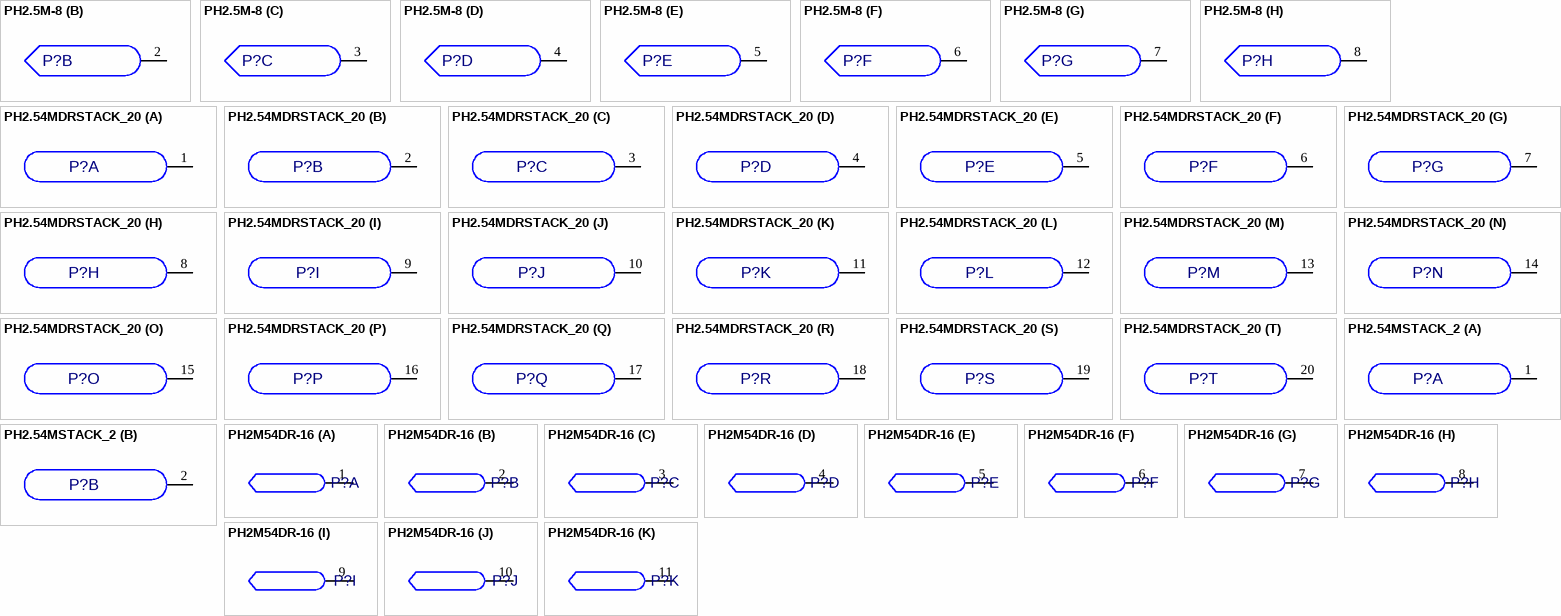
[diagram p13: symbols PH2.5M-8 to PH2M54DR-16]

## PH2.5M-8
designator P?, comment TMP_US_PH2.5M-8  (value not drawn)
Connector, 8 Pin Male; Value: {Value}; ECAD_Revision: 1; Librarian: US; PartNumber: TMP_US_PH2.5M-8; HelpURL: K:\ACCELEDA\PDF Spec Files\Connector\2521p.pdf; Item: *
footprint PH2.5M-8 (Header 2.5mm pitch)
part A pins: 1 PIN
part B pins: 2 PIN
part C pins: 3 PIN
part D pins: 4 PIN
part E pins: 5 PIN
part F pins: 6 PIN
part G pins: 7 PIN
part H pins: 8 PIN

## PH2.54MDRSTACK_20
designator P?, comment AWT25-000173  (value not drawn)
Connector, 20 Way Header Stacker; Value: DW-10-09-T-D-300; ECAD_Revision: 2; Librarian: UK; PartNumber: AWT25-000173; Item: *
footprint PH2.54MDRSTACK_20 (Clerance for 2 tracks between. Rev. 1)
part A pins: 1 PIN
part B pins: 2 PIN
part C pins: 3 PIN
part D pins: 4 PIN
part E pins: 5 PIN
part F pins: 6 PIN
part G pins: 7 PIN
part H pins: 8 PIN
part I pins: 9 PIN
part J pins: 10 PIN
part K pins: 11 PIN
part L pins: 12 PIN
part M pins: 13 PIN
part N pins: 14 PIN
part O pins: 15 PIN
part P pins: 16 PIN
part Q pins: 17 PIN
part R pins: 18 PIN
part S pins: 19 PIN
part T pins: 20 PIN

## PH2.54MSTACK_2
designator P?, comment AWT25-000174  (value not drawn)
Connector, 2 Way Header Stacker; Value: DW-02-09-T-S-300; ECAD_Revision: 1; Librarian: UK; PartNumber: AWT25-000174; Item: *
footprint P2
part A pins: 1 PIN
part B pins: 2 PIN

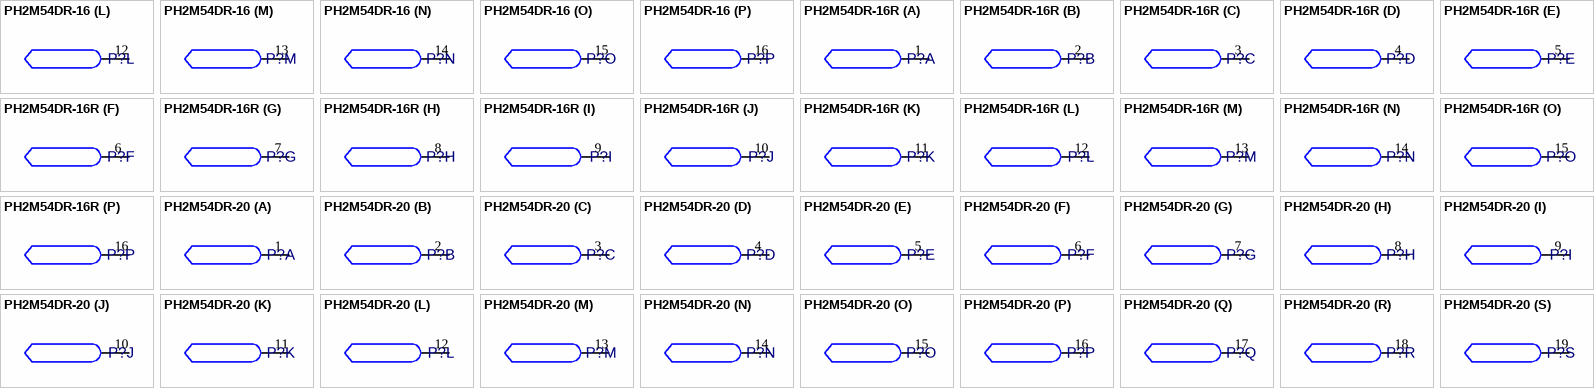
[diagram p14: symbols PH2M54DR-16 to PH2M54DR-20]

## PH2M54DR-16
designator P?, comment 70612-383  (value not drawn)
Connector, 3599-6002 16WAY LOW PROFILE BOXED HEADER; ECAD_Revision: 1; Librarian: UK; HelpURL: *; PartNumber: 70612-383
footprint PH2M54DR-16 (Rev. 1)
part A pins: 1 PIN
part B pins: 2 PIN
part C pins: 3 PIN
part D pins: 4 PIN
part E pins: 5 PIN
part F pins: 6 PIN
part G pins: 7 PIN
part H pins: 8 PIN
part I pins: 9 PIN
part J pins: 10 PIN
part K pins: 11 PIN
part L pins: 12 PIN
part M pins: 13 PIN
part N pins: 14 PIN
part O pins: 15 PIN
part P pins: 16 PIN

## PH2M54DR-16R
designator P?, comment 18137-041  (value not drawn)
Connector, 70247-1602 16WAY LOW PROFILE RIGHT ANGLE BOXED HEADER; ECAD_Revision: 1; Librarian: UK; HelpURL: *; PartNumber: 18137-041
footprint PH2M54DR-16R (REV1)
part A pins: 1 PIN
part B pins: 2 PIN
part C pins: 3 PIN
part D pins: 4 PIN
part E pins: 5 PIN
part F pins: 6 PIN
part G pins: 7 PIN
part H pins: 8 PIN
part I pins: 9 PIN
part J pins: 10 PIN
part K pins: 11 PIN
part L pins: 12 PIN
part M pins: 13 PIN
part N pins: 14 PIN
part O pins: 15 PIN
part P pins: 16 PIN

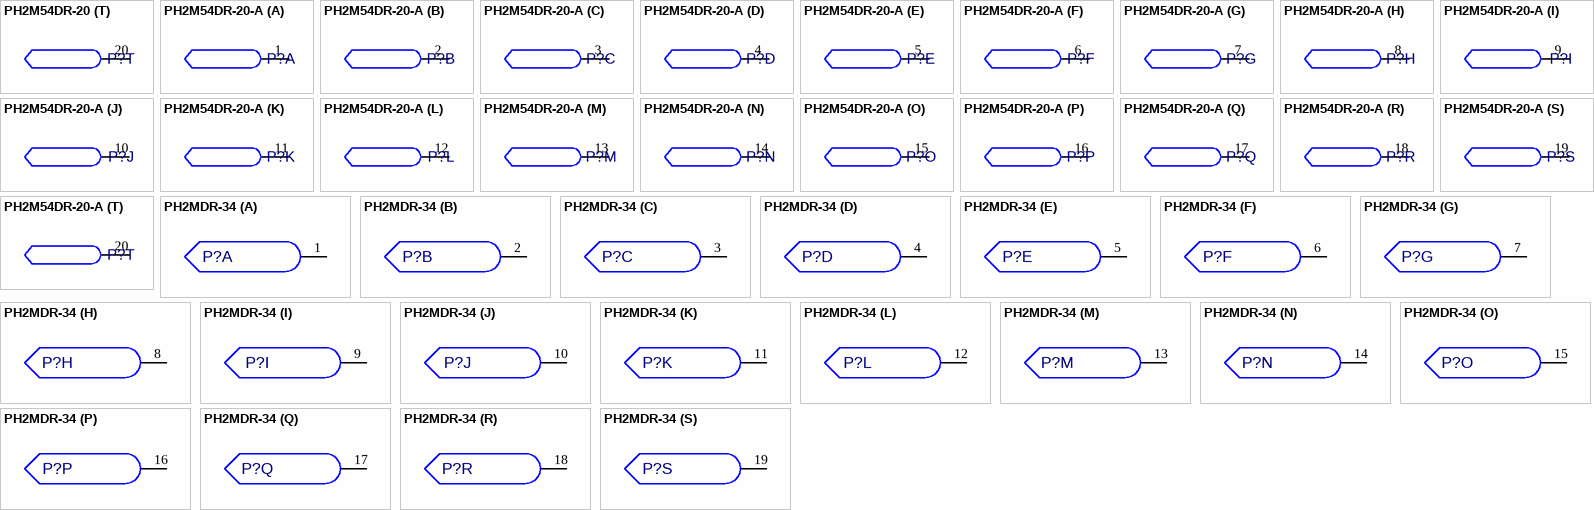
[diagram p15: symbols PH2M54DR-20 to PH2MDR-34]

## PH2M54DR-20
designator P?, comment TMP_UK_NS9360  (value not drawn)
NS9360 ICE Header; ECAD_Revision: 2; Librarian: UK; HelpURL: *; PartNumber: TMP_UK_NS9360
footprint PH2M54DR-20 (Rev.2)
part A pins: 1 PIN
part B pins: 2 PIN
part C pins: 3 PIN
part D pins: 4 PIN
part E pins: 5 PIN
part F pins: 6 PIN
part G pins: 7 PIN
part H pins: 8 PIN
part I pins: 9 PIN
part J pins: 10 PIN
part K pins: 11 PIN
part L pins: 12 PIN
part M pins: 13
part N pins: 14
part O pins: 15 PIN
part P pins: 16 PIN
part Q pins: 17 PIN
part R pins: 18 PIN
part S pins: 19 PIN
part T pins: 20 PIN

## PH2M54DR-20-A
designator P?, comment AWT25-000228  (value not drawn)
Connector, 20 Pin Male 2.54mm 2 row; ECAD_Revision: 1; Librarian: UK; HelpURL: *; PartNumber: AWT25-000228
footprint PH2M54DR-20-A (Body length 28.24, width 10.16, Rev.1)
part A pins: 1 PIN
part B pins: 2 PIN
part C pins: 3 PIN
part D pins: 4 PIN
part E pins: 5 PIN
part F pins: 6 PIN
part G pins: 7 PIN
part H pins: 8 PIN
part I pins: 9 PIN
part J pins: 10 PIN
part K pins: 11 PIN
part L pins: 12 PIN
part M pins: 13 PIN
part N pins: 14 PIN
part O pins: 15 PIN
part P pins: 16 PIN
part Q pins: 17 PIN
part R pins: 18 PIN
part S pins: 19 PIN
part T pins: 20 PIN

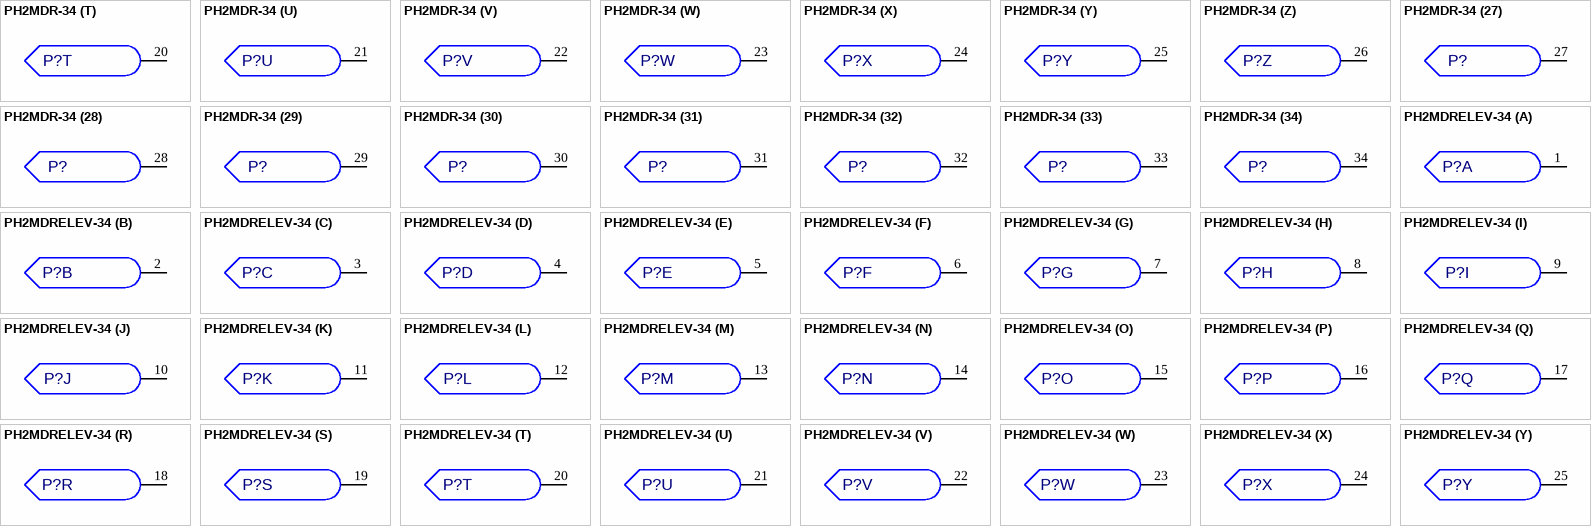
[diagram p16: symbols PH2MDR-34 to PH2MDRELEV-34]

## PH2MDR-34
designator P?, comment 52625-5161  (value not drawn)
Connector, 34 Pin Male; Value: {Value}; ECAD_Revision: 1; Librarian: US; PartNumber: 52625-5161; Item: *
footprint PH2MDR-34
part A pins: 1 PIN
part B pins: 2 PIN
part C pins: 3 PIN
part D pins: 4 PIN
part E pins: 5 PIN
part F pins: 6 PIN
part G pins: 7 PIN
part H pins: 8 PIN
part I pins: 9 PIN
part J pins: 10 PIN
part K pins: 11 PIN
part L pins: 12 PIN
part M pins: 13 PIN
part N pins: 14 PIN
part O pins: 15 PIN
part P pins: 16 PIN
part Q pins: 17 PIN
part R pins: 18 PIN
part S pins: 19 PIN
part T pins: 20 PIN
part U pins: 21 PIN
part V pins: 22 PIN
part W pins: 23 PIN
part X pins: 24 PIN
part Y pins: 25 PIN
part Z pins: 26 PIN
part 27 pins: 27 PIN
part 28 pins: 28 PIN
part 29 pins: 29 PIN
part 30 pins: 30 PIN
part 31 pins: 31 PIN
part 32 pins: 32 PIN
part 33 pins: 33 PIN
part 34 pins: 34 PIN

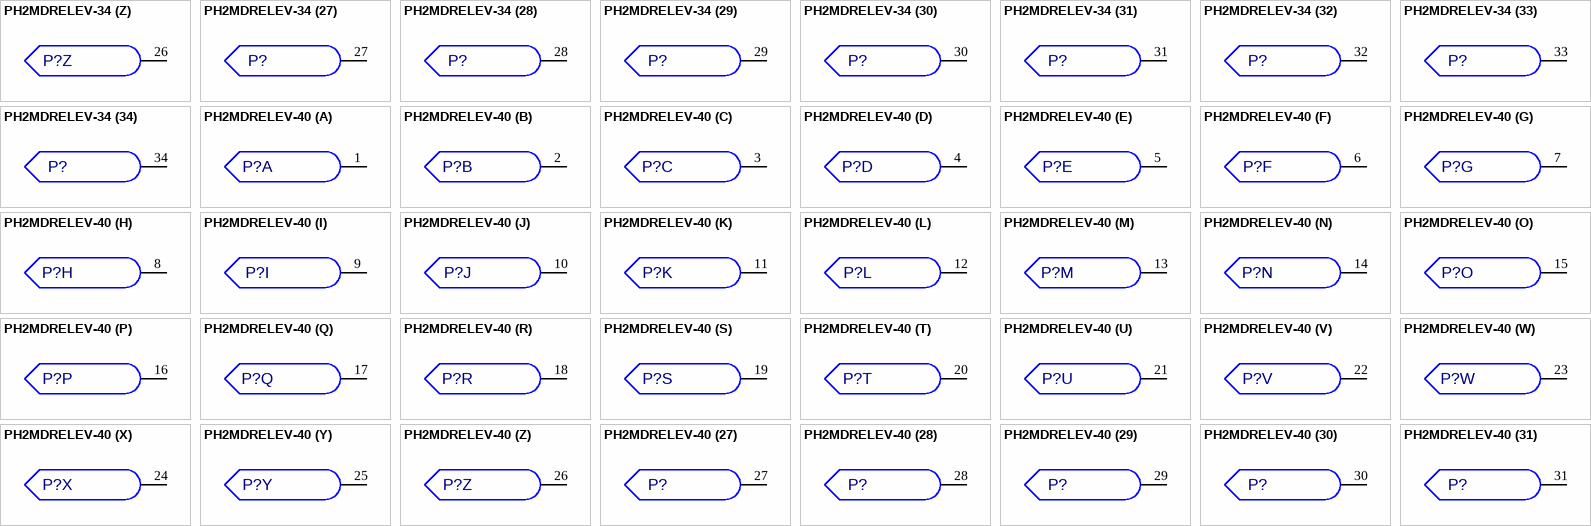
[diagram p17: symbols PH2MDRELEV-34 to PH2MDRELEV-40]

## PH2MDRELEV-34
designator P?, comment AWT25-500049  (value not drawn)
Connector, 34 Pin Male; Value: {Value}; ECAD_Revision: 2; Librarian: US; PartNumber: AWT25-500049; Item: *; HelpURL: K:\ACCELEDA\PDF Spec Files\Connector\ZLTMM_TH.PDF
footprint PH2MDRELEV_34 (ZLTMM SERIES SAMTEC)
part A pins: 1 PIN
part B pins: 2 PIN
part C pins: 3 PIN
part D pins: 4 PIN
part E pins: 5 PIN
part F pins: 6 PIN
part G pins: 7 PIN
part H pins: 8 PIN
part I pins: 9 PIN
part J pins: 10 PIN
part K pins: 11 PIN
part L pins: 12 PIN
part M pins: 13 PIN
part N pins: 14 PIN
part O pins: 15 PIN
part P pins: 16 PIN
part Q pins: 17 PIN
part R pins: 18 PIN
part S pins: 19 PIN
part T pins: 20 PIN
part U pins: 21 PIN
part V pins: 22 PIN
part W pins: 23 PIN
part X pins: 24 PIN
part Y pins: 25 PIN
part Z pins: 26 PIN
part 27 pins: 27 PIN
part 28 pins: 28 PIN
part 29 pins: 29 PIN
part 30 pins: 30 PIN
part 31 pins: 31 PIN
part 32 pins: 32 PIN
part 33 pins: 33 PIN
part 34 pins: 34 PIN

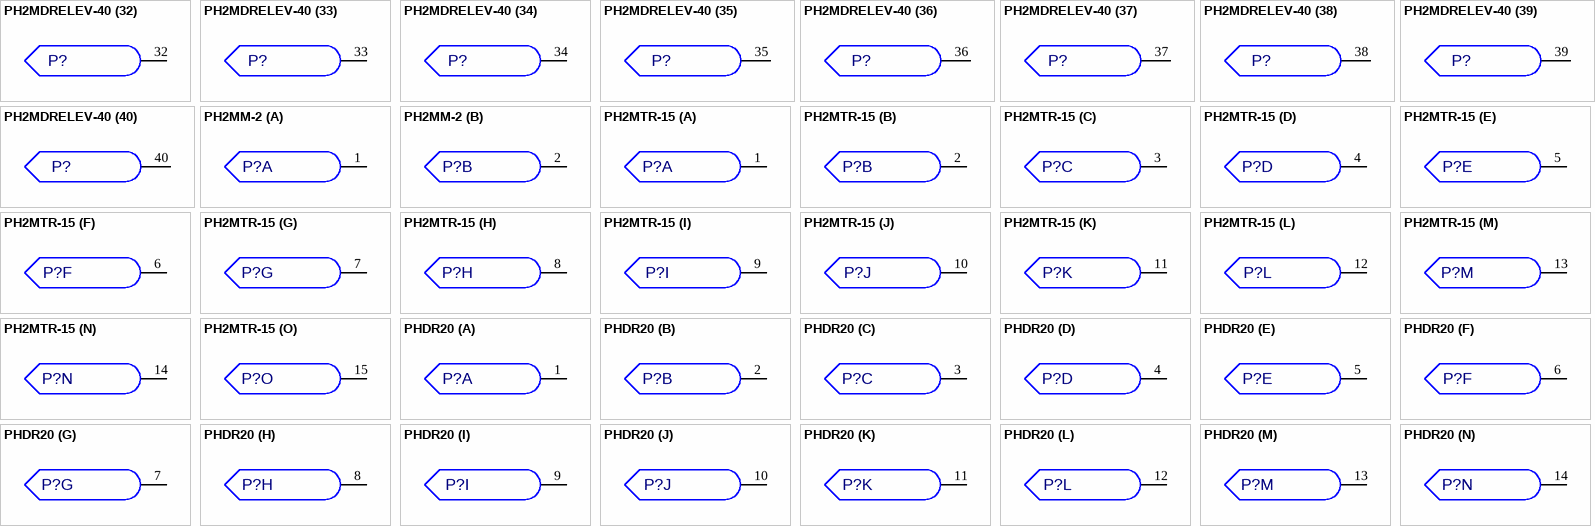
[diagram p18: symbols PH2MDRELEV-40 to PHDR20]

## PH2MDRELEV-40
designator P?, comment AWT25-500049  (value not drawn)
Connector, 40 Pin Male; Value: {Value}; ECAD_Revision: 1; Librarian: US; PartNumber: AWT25-500049; Item: *; HelpURL: K:\ACCELEDA\PDF Spec Files\Connector\ZLTMM_TH.PDF
footprint PH2MDRELEV_40 (ZLTMM SERIES SAMTEC)
part A pins: 1 PIN
part B pins: 2 PIN
part C pins: 3 PIN
part D pins: 4 PIN
part E pins: 5 PIN
part F pins: 6 PIN
part G pins: 7 PIN
part H pins: 8 PIN
part I pins: 9 PIN
part J pins: 10 PIN
part K pins: 11 PIN
part L pins: 12 PIN
part M pins: 13 PIN
part N pins: 14 PIN
part O pins: 15 PIN
part P pins: 16 PIN
part Q pins: 17 PIN
part R pins: 18 PIN
part S pins: 19 PIN
part T pins: 20 PIN
part U pins: 21 PIN
part V pins: 22 PIN
part W pins: 23 PIN
part X pins: 24 PIN
part Y pins: 25 PIN
part Z pins: 26 PIN
part 27 pins: 27 PIN
part 28 pins: 28 PIN
part 29 pins: 29 PIN
part 30 pins: 30 PIN
part 31 pins: 31 PIN
part 32 pins: 32 PIN
part 33 pins: 33 PIN
part 34 pins: 34 PIN
part 35 pins: 35 PIN
part 36 pins: 36 PIN (power)
part 37 pins: 37 PIN (power)
part 38 pins: 38 PIN (power)
part 39 pins: 39 PIN (power)
part 40 pins: 40 PIN (power)

## PH2MM-2
designator P?, comment AWT25-500112  (value not drawn)
Connector, 2 Pin Male 2mm; Value: {Value}; ECAD_Revision: 1; Librarian: US; PartNumber: AWT25-500112; HelpURL: K:\ACCELEDA\PDF Spec Files\Connector\B2B-PH-K-S.pdf; Item: *
footprint PH2mm-2 (JST B()B-PH-K-S)
part A pins: 1 PIN
part B pins: 2 PIN

## PH2MTR-15
designator P?, comment AWT25-500172  (value not drawn)
Connector, 15 Pin Male 3 Row; Value: {Value}; ECAD_Revision: 1; Librarian: US; PartNumber: AWT25-500172; Item: *
footprint PH2MTR-15
part A pins: 1 PIN
part B pins: 2 PIN
part C pins: 3 PIN
part D pins: 4 PIN
part E pins: 5 PIN
part F pins: 6 PIN
part G pins: 7 PIN
part H pins: 8 PIN
part I pins: 9 PIN
part J pins: 10 PIN
part K pins: 11 PIN
part L pins: 12 PIN
part M pins: 13 PIN
part N pins: 14 PIN
part O pins: 15 PIN

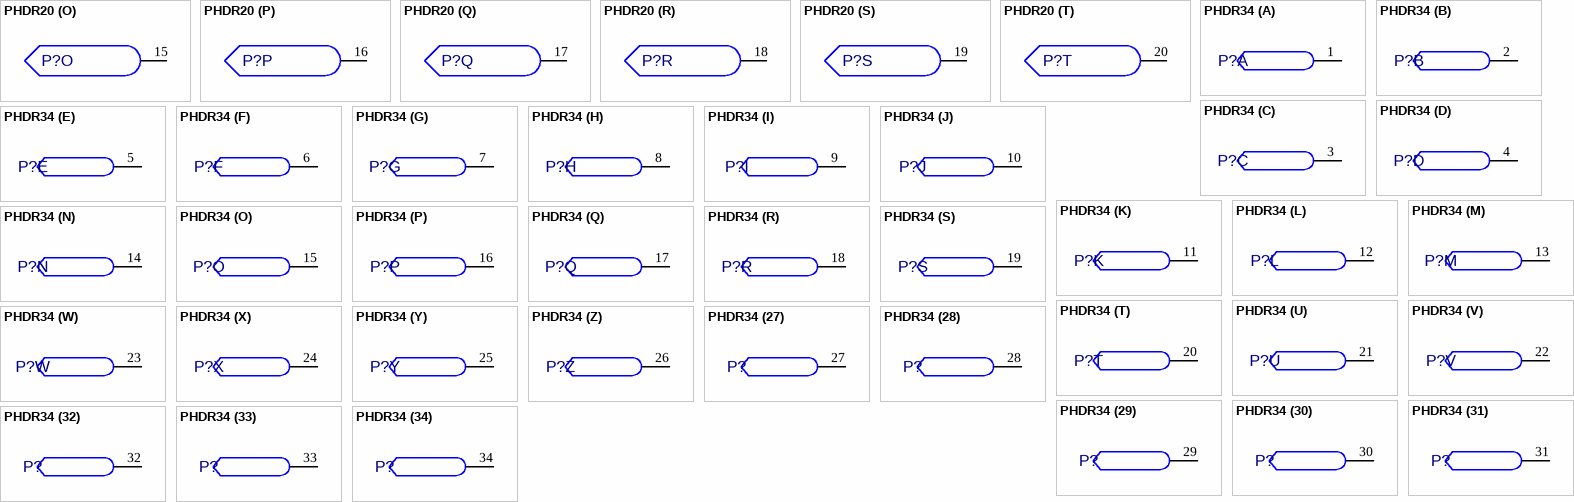
[diagram p19: symbols PHDR20 to PHDR34]

## PHDR20
designator P?, comment 46563-0044  (value not drawn)
Connector, 20 Pin Male; Value: {Value}; ECAD_Revision: 1; Librarian: US; PartNumber: 46563-0044; Item: *; HelpURL: K:\ACCELEDA\PDF Spec Files\Connector\
footprint PH20
part A pins: 1 PIN
part B pins: 2 PIN
part C pins: 3 PIN
part D pins: 4 PIN
part E pins: 5 PIN
part F pins: 6 PIN
part G pins: 7 PIN
part H pins: 8 PIN
part I pins: 9 PIN
part J pins: 10 PIN
part K pins: 11 PIN
part L pins: 12 PIN
part M pins: 13 PIN
part N pins: 14 PIN
part O pins: 15 PIN
part P pins: 16 PIN
part Q pins: 17 PIN
part R pins: 18 PIN
part S pins: 19 PIN
part T pins: 20 PIN

## PHDR34
designator P?, comment TMP_UK_PHDR34  (value not drawn)
Connector, 34 Pin Male 2mm pitch; Value: {Value}; ECAD_Revision: 1; Librarian: UK; PartNumber: TMP_UK_PHDR34; Item: *
footprint MBD34 (Auk Contractors box hdr 34 way 2 mm pitch, rev.1)
part A pins: 1 PIN
part B pins: 2 PIN
part C pins: 3 PIN
part D pins: 4 PIN
part E pins: 5 PIN
part F pins: 6 PIN
part G pins: 7 PIN
part H pins: 8 PIN
part I pins: 9 PIN
part J pins: 10 PIN
part K pins: 11 PIN
part L pins: 12 PIN
part M pins: 13 PIN
part N pins: 14 PIN
part O pins: 15 PIN
part P pins: 16 PIN
part Q pins: 17 PIN
part R pins: 18 PIN
part S pins: 19 PIN
part T pins: 20 PIN
part U pins: 21 PIN
part V pins: 22 PIN
part W pins: 23 PIN
part X pins: 24 PIN
part Y pins: 25 PIN
part Z pins: 26 PIN
part 27 pins: 27 PIN
part 28 pins: 28 PIN
part 29 pins: 29 PIN
part 30 pins: 30 PIN
part 31 pins: 31 PIN
part 32 pins: 32 PIN
part 33 pins: 33 PIN
part 34 pins: 34 PIN

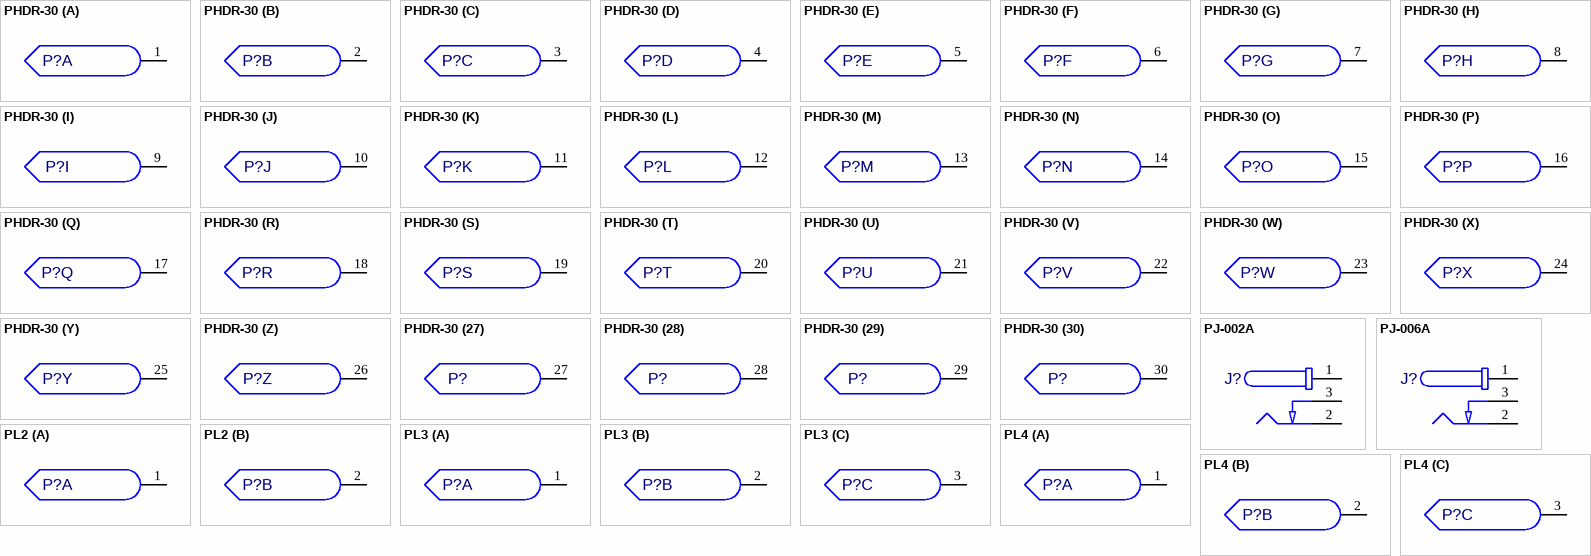
[diagram p20: symbols PHDR-30 to PL4]

## PHDR-30
designator P?, comment 46563-1027  (value not drawn)
Connector, 30 Pin Male; Value: {Value}; ECAD_Revision: 1; Librarian: US; PartNumber: 46563-1027; Item: *; HelpURL: K:\ACCELEDA\PDF Spec Files\Connector\TSS_TH.pdf
footprint PHDR_30 (TSS  SERIES SAMTEC)
part A pins: 1 PIN
part B pins: 2 PIN
part C pins: 3 PIN
part D pins: 4 PIN
part E pins: 5 PIN
part F pins: 6 PIN
part G pins: 7 PIN
part H pins: 8 PIN
part I pins: 9 PIN
part J pins: 10 PIN
part K pins: 11 PIN
part L pins: 12 PIN
part M pins: 13 PIN
part N pins: 14 PIN
part O pins: 15 PIN
part P pins: 16 PIN
part Q pins: 17 PIN
part R pins: 18 PIN
part S pins: 19 PIN
part T pins: 20 PIN
part U pins: 21 PIN
part V pins: 22 PIN
part W pins: 23 PIN
part X pins: 24 PIN
part Y pins: 25 PIN
part Z pins: 26 PIN
part 27 pins: 27 PIN
part 28 pins: 28 PIN
part 29 pins: 29 PIN
part 30 pins: 30 PIN

## PJ-002A
designator J?, comment AWT25-000240  (value not drawn)
Connector, DC Power Jack, PJ-002A, RIGHT ANGLES; ECAD_Revision: 1; Librarian: UK; PartNumber: AWT25-000240; Item: *; HelpURL: *; Value: PJ-002A
footprint CU_PJ-002A (CUI PJ-002A, Rev. 1)
pins: 1 PIN, 2 PIN, 3 PIN

## PJ-006A
designator J?, comment AWT25-000128  (value not drawn)
Connector, DC Power Jack, PJ-0006A; ECAD_Revision: 2; Librarian: UK; Value: PJ-006A; PartNumber: AWT25-000128; Item: *; HelpURL: *
footprint CU_PJ-006A (Cui, PJ-006A, Rev. 1)
pins: 1 PIN, 2 PIN, 3 PIN

## PL2
designator P?, comment 17794-0012  (value not drawn)
Connector, 2 Pin Male Locking; Value: {Value}; ECAD_Revision: 1; Librarian: US; PartNumber: 17794-0012; Item: *
footprint PL2
part A pins: 1 PIN
part B pins: 2 PIN

## PL3
designator P?, comment 17794-0020  (value not drawn)
Connector, 3 Pin Male Locking; Value: {Value}; ECAD_Revision: 1; Librarian: US; PartNumber: 17794-0020; Item: *
footprint PL3
part A pins: 1 PIN
part B pins: 2 PIN
part C pins: 3 PIN

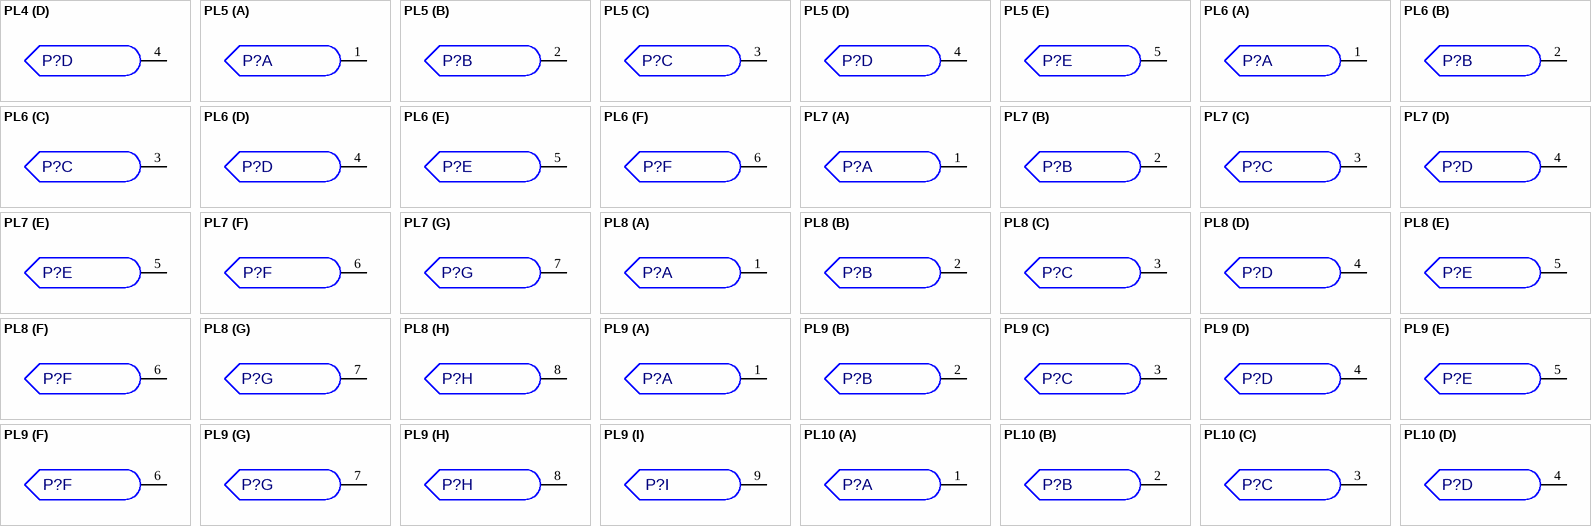
[diagram p21: symbols PL4 to PL10]

## PL4
designator P?, comment 17794-0038  (value not drawn)
Connector, 4 Pin Male Locking; Value: {Value}; ECAD_Revision: 1; Librarian: US; PartNumber: 17794-0038; Item: *
footprint PL4
part A pins: 1 PIN
part B pins: 2 PIN
part C pins: 3 PIN
part D pins: 4 PIN

## PL5
designator P?, comment 17794-0046  (value not drawn)
Connector, 5 Pin Male Locking; Value: {Value}; ECAD_Revision: 1; Librarian: US; PartNumber: 17794-0046; Item: *
footprint PL5
part A pins: 1 PIN
part B pins: 2 PIN
part C pins: 3 PIN
part D pins: 4 PIN
part E pins: 5 PIN

## PL6
designator P?, comment 17794-0053  (value not drawn)
Connector, 6 Pin Male Locking; Value: {Value}; ECAD_Revision: 1; Librarian: US; PartNumber: 17794-0053; Item: *
footprint PL6
part A pins: 1 PIN
part B pins: 2 PIN
part C pins: 3 PIN
part D pins: 4 PIN
part E pins: 5 PIN
part F pins: 6 PIN

## PL7
designator P?, comment 17794-0061  (value not drawn)
Connector, 7 Pin Male Locking; Value: {Value}; ECAD_Revision: 1; Librarian: US; PartNumber: 17794-0061; Item: *
footprint PL7
part A pins: 1 PIN
part B pins: 2 PIN
part C pins: 3 PIN
part D pins: 4 PIN
part E pins: 5 PIN
part F pins: 6 PIN
part G pins: 7 PIN

## PL8
designator P?, comment 17794-0079  (value not drawn)
Connector, 8 Pin Male Locking; Value: {Value}; ECAD_Revision: 1; Librarian: US; PartNumber: 17794-0079; Item: *
footprint PL8
part A pins: 1 PIN
part B pins: 2 PIN
part C pins: 3 PIN
part D pins: 4 PIN
part E pins: 5 PIN
part F pins: 6 PIN
part G pins: 7 PIN
part H pins: 8 PIN

## PL9
designator P?, comment 17794-0087  (value not drawn)
Connector, 9 Pin Male Locking; Value: {Value}; ECAD_Revision: 1; Librarian: US; PartNumber: 17794-0087; Item: *
footprint PL9
part A pins: 1 PIN
part B pins: 2 PIN
part C pins: 3 PIN
part D pins: 4 PIN
part E pins: 5 PIN
part F pins: 6 PIN
part G pins: 7 PIN
part H pins: 8 PIN
part I pins: 9 PIN

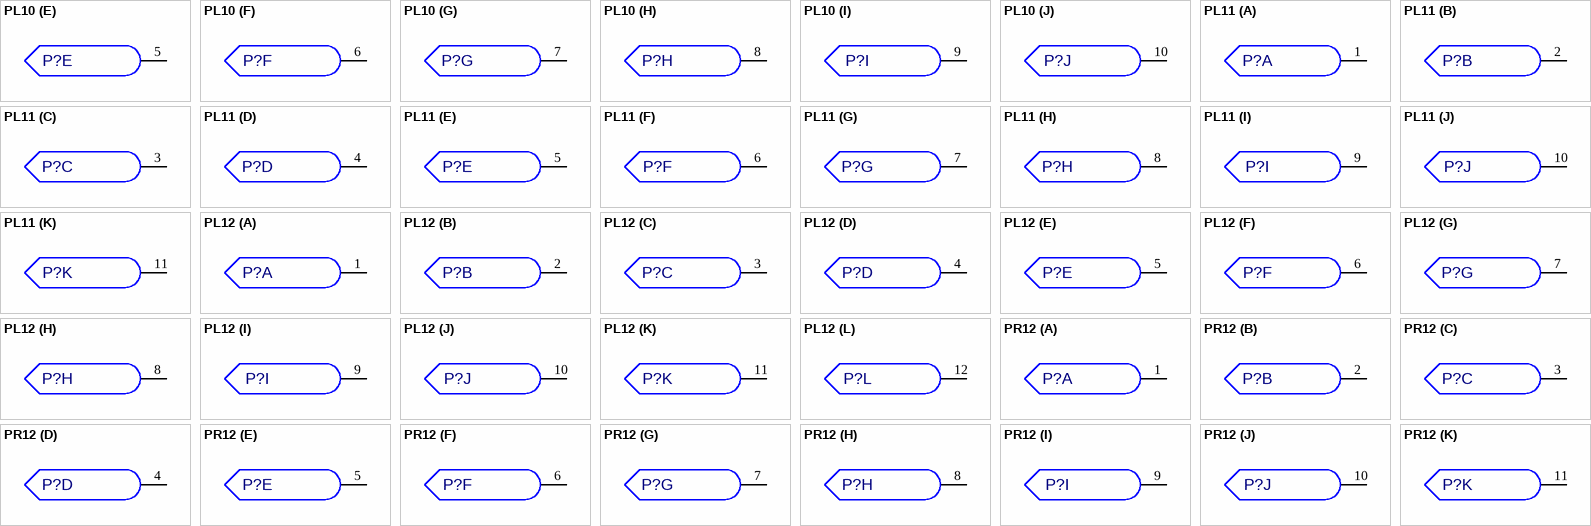
[diagram p22: symbols PL10 to PR12]

## PL10
designator P?, comment 17794-0095  (value not drawn)
Connector, 10 Pin Male Locking; Value: {Value}; ECAD_Revision: 1; Librarian: US; PartNumber: 17794-0095; Item: *
footprint PL10
part A pins: 1 PIN
part B pins: 2 PIN
part C pins: 3 PIN
part D pins: 4 PIN
part E pins: 5 PIN
part F pins: 6 PIN
part G pins: 7 PIN
part H pins: 8 PIN
part I pins: 9 PIN
part J pins: 10 PIN

## PL11
designator P?, comment 17794-0103  (value not drawn)
Connector, 11 Pin Male Locking; Value: {Value}; ECAD_Revision: 1; Librarian: US; PartNumber: 17794-0103; Item: *
footprint PL11
part A pins: 1 PIN
part B pins: 2 PIN
part C pins: 3 PIN
part D pins: 4 PIN
part E pins: 5 PIN
part F pins: 6 PIN
part G pins: 7 PIN
part H pins: 8 PIN
part I pins: 9 PIN
part J pins: 10 PIN
part K pins: 11 PIN

## PL12
designator P?, comment 17794-0111  (value not drawn)
Connector, 12 Pin Male Locking; Value: {Value}; ECAD_Revision: 1; Librarian: US; PartNumber: 17794-0111; Item: *
footprint PL12
part A pins: 1 PIN
part B pins: 2 PIN
part C pins: 3 PIN
part D pins: 4 PIN
part E pins: 5 PIN
part F pins: 6 PIN
part G pins: 7 PIN
part H pins: 8 PIN
part I pins: 9 PIN
part J pins: 10 PIN
part K pins: 11 PIN
part L pins: 12 PIN